# Altium integrated library Xilinx Virtex-4.IntLib: 84 symbols (part 47 of 50)
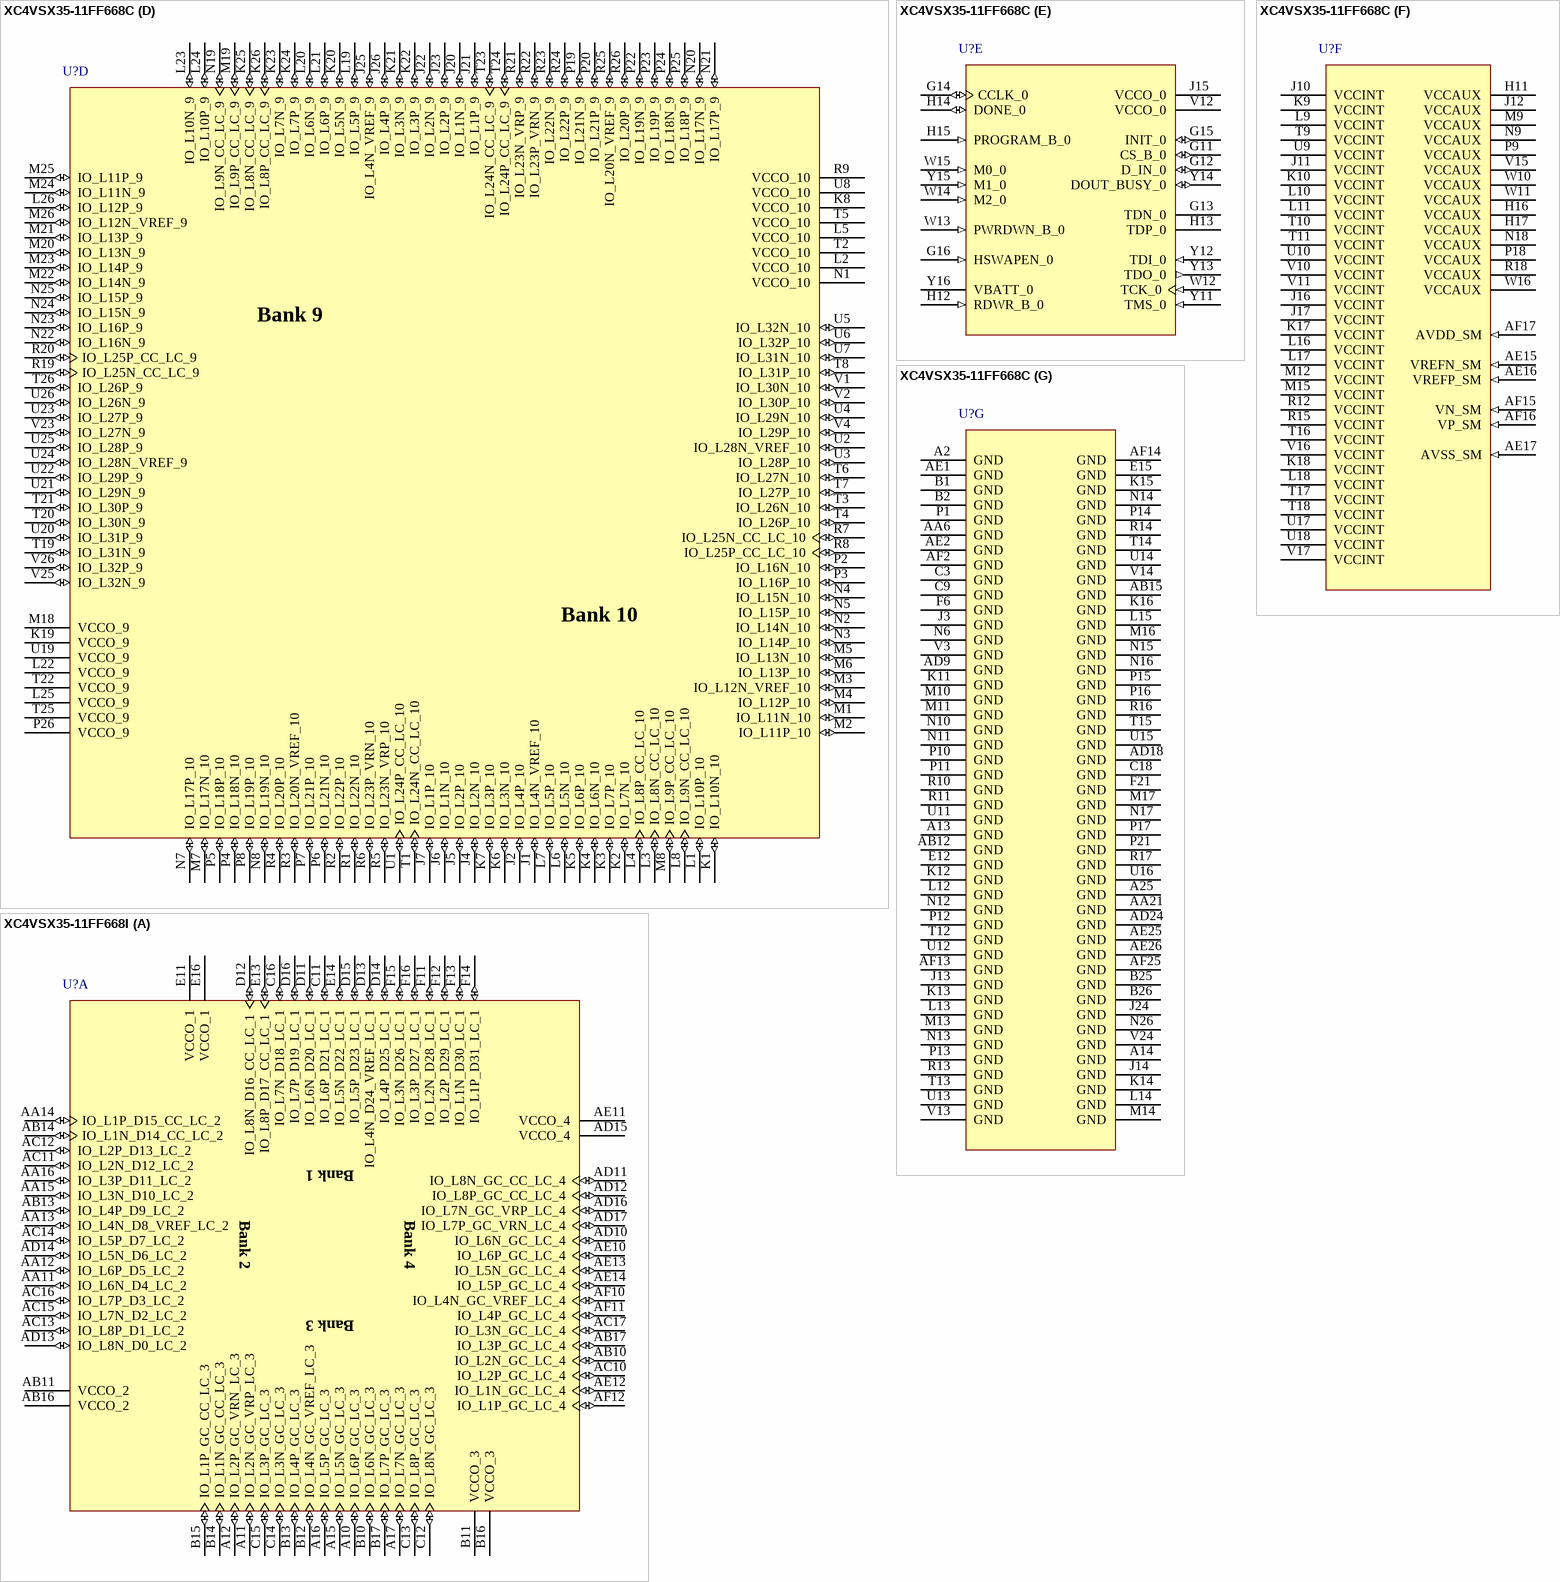
[diagram p445: symbols XC4VSX35-11FF668C to XC4VSX35-11FF668I]

## XC4VSX35-11FF668C
designator U?
Xilinx Virtex-4 SX Platform FPGA, 668-Ball FFBGA, Speed Grade 11, 448 User I/Os, Commercial Grade; PackageDocument: ver1.0, Sep-2004; Published: 13-Dec-2004; DatasheetDocument: ver1.2, Dec-2004; PackageReference: FF668; Publisher: Altium Limited; Code_JEDEC: MS-034-AAL-1 (Depopulated)
footprint FF668 (668-Ball Flip-Chip Fine-Pitch Ball Grid Array (FF668))
3D model XC4VSX35-FF668 (668-Ball Flip-Chip Fine-Pitch Ball Grid Array (FF668))
signal-integrity model XC4VSX35_FF668 (Virtex-4)
part A pins: A10 IO_L6P_GC_LC_3 (io), A11 IO_L2N_GC_VRP_LC_3 (io), A12 IO_L2P_GC_VRN_LC_3 (io), A15 IO_L5N_GC_LC_3 (io), A16 IO_L5P_GC_LC_3 (io), A17 IO_L7N_GC_LC_3 (io), AA11 IO_L6N_D4_LC_2 (io), AA12 IO_L6P_D5_LC_2 (io), AA13 IO_L4N_D8_VREF_LC_2 (io), AA14 IO_L1P_D15_CC_LC_2 (io), AA15 IO_L3N_D10_LC_2 (io), AA16 IO_L3P_D11_LC_2 (io), AB10 IO_L2N_GC_LC_4 (io), AB11 VCCO_2 (power), AB13 IO_L4P_D9_LC_2 (io), AB14 IO_L1N_D14_CC_LC_2 (io), AB16 VCCO_2 (power), AB17 IO_L3P_GC_LC_4 (io), AC10 IO_L2P_GC_LC_4 (io), AC11 IO_L2N_D12_LC_2 (io), AC12 IO_L2P_D13_LC_2 (io), AC13 IO_L8P_D1_LC_2 (io), AC14 IO_L5P_D7_LC_2 (io), AC15 IO_L7N_D2_LC_2 (io), AC16 IO_L7P_D3_LC_2 (io), AC17 IO_L3N_GC_LC_4 (io), AD10 IO_L6N_GC_LC_4 (io), AD11 IO_L8N_GC_CC_LC_4 (io), AD12 IO_L8P_GC_CC_LC_4 (io), AD13 IO_L8N_D0_LC_2 (io), AD14 IO_L5N_D6_LC_2 (io), AD15 VCCO_4 (power), AD16 IO_L7N_GC_VRP_LC_4 (io), AD17 IO_L7P_GC_VRN_LC_4 (io), AE10 IO_L6P_GC_LC_4 (io), AE11 VCCO_4 (power), AE12 IO_L1N_GC_LC_4 (io), AE13 IO_L5N_GC_LC_4 (io), AE14 IO_L5P_GC_LC_4 (io), AF10 IO_L4N_GC_VREF_LC_4 (io), AF11 IO_L4P_GC_LC_4 (io), AF12 IO_L1P_GC_LC_4 (io), B10 IO_L6N_GC_LC_3 (io), B11 VCCO_3 (power), B12 IO_L4N_GC_VREF_LC_3 (io), B13 IO_L4P_GC_LC_3 (io), B14 IO_L1N_GC_CC_LC_3 (io), B15 IO_L1P_GC_CC_LC_3 (io), B16 VCCO_3 (power), B17 IO_L7P_GC_LC_3 (io), C11 IO_L6P_D21_LC_1 (io), C12 IO_L8N_GC_LC_3 (io), C13 IO_L8P_GC_LC_3 (io), C14 IO_L3N_GC_LC_3 (io), C15 IO_L3P_GC_LC_3 (io), C16 IO_L7N_D18_LC_1 (io), D11 IO_L6N_D20_LC_1 (io), D12 IO_L8N_D16_CC_LC_1 (io), D13 IO_L4N_D24_VREF_LC_1 (io), D14 IO_L4P_D25_LC_1 (io), D15 IO_L5P_D23_LC_1 (io), D16 IO_L7P_D19_LC_1 (io), E11 VCCO_1 (power), E13 IO_L8P_D17_CC_LC_1 (io), E14 IO_L5N_D22_LC_1 (io), E16 VCCO_1 (power), F11 IO_L2N_D28_LC_1 (io), F12 IO_L2P_D29_LC_1 (io), F13 IO_L1N_D30_LC_1 (io), F14 IO_L1P_D31_LC_1 (io), F15 IO_L3N_D26_LC_1 (io), F16 IO_L3P_D27_LC_1 (io)
part B pins: A3 IO_L14P_6 (io), A4 IO_L15P_6 (io), A5 IO_L6N_6 (io), A6 IO_L6P_6 (io), A7 IO_L3N_6 (io), A8 IO_L3P_6 (io), A9 IO_L13P_6 (io), A18 IO_L3N_5 (io), A19 IO_L13N_5 (io), A20 IO_L13P_5 (io), A21 IO_L15N_5 (io), A22 IO_L15P_5 (io), A23 IO_L8N_CC_LC_5 (io), A24 IO_L8P_CC_LC_5 (io), B3 IO_L14N_6 (io), B4 IO_L15N_6 (io), B5 VCCO_6 (power), B6 IO_L8P_CC_LC_6 (io), B7 IO_L11P_6 (io), B8 VCCO_6 (power), B9 IO_L13N_6 (io), B18 IO_L3P_5 (io), B19 VCCO_5 (power), B20 IO_L2N_5 (io), B21 IO_L6N_5 (io), B22 VCCO_5 (power), B23 IO_L10N_5 (io), B24 IO_L10P_5 (io), C1 IO_L20N_VREF_6 (io), C2 IO_L20P_6 (io), C4 IO_L16P_6 (io), C5 IO_L12P_6 (io), C6 IO_L8N_CC_LC_6 (io), C7 IO_L11N_6 (io), C8 IO_L2N_6 (io), C10 IO_L1N_6 (io), C17 IO_L1P_5 (io), C19 IO_L7P_5 (io), C20 IO_L2P_5 (io), C21 IO_L6P_5 (io), C22 IO_L14N_5 (io), C23 IO_L21N_5 (io), C24 IO_L16N_5 (io), C25 IO_L20N_VREF_5 (io), C26 IO_L20P_5 (io), D1 IO_L25N_CC_LC_6 (io), D2 IO_L25P_CC_LC_6 (io), D3 IO_L22P_6 (io), D4 IO_L16N_6 (io), D5 IO_L12N_VREF_6 (io), D6 IO_L17N_6 (io), D7 IO_L4N_VREF_6 (io), D8 IO_L4P_6 (io), D9 IO_L2P_6 (io), D10 IO_L1P_6 (io), D17 IO_L1N_5 (io), D18 IO_L7N_5 (io), D19 IO_L4N_VREF_5 (io), D20 IO_L4P_5 (io), D21 IO_L12N_VREF_5 (io), D22 IO_L14P_5 (io), D23 IO_L21P_5 (io), D24 IO_L16P_5 (io), D25 IO_L25N_CC_LC_5 (io), D26 IO_L25P_CC_LC_5 (io), E1 IO_L26P_6 (io), E2 IO_L24N_CC_LC_6 (io), E3 IO_L24P_CC_LC_6 (io), E4 IO_L22N_6 (io), E5 IO_L18N_6 (io), E6 IO_L18P_6 (io), E7 IO_L17P_6 (io), E8 VCCO_6 (power), E9 IO_L7P_6 (io), E10 IO_L5N_6 (io), E17 IO_L5P_5 (io), E18 IO_L11N_5 (io), E19 VCCO_5 (power), E20 IO_L19N_5 (io), E21 IO_L12P_5 (io), E22 IO_L18N_5 (io), E23 IO_L18P_5 (io), E24 IO_L27N_5 (io), E25 IO_L27P_5 (io), E26 IO_L29N_5 (io), F1 IO_L26N_6 (io), F2 VCCO_6 (power), F3 IO_L27N_6 (io), F4 IO_L27P_6 (io), F5 VCCO_6 (power), F7 IO_L19P_6 (io), F8 IO_L10P_6 (io), F9 IO_L7N_6 (io), F10 IO_L5P_6 (io), F17 IO_L5N_5 (io), F18 IO_L11P_5 (io), F19 IO_L17N_5 (io), F20 IO_L19P_5 (io), F22 VCCO_5 (power), F23 IO_L24N_CC_LC_5 (io), F24 IO_L24P_CC_LC_5 (io), F25 VCCO_5 (power), F26 IO_L29P_5 (io), G1 IO_L30N_6 (io), G2 IO_L30P_6 (io), G3 IO_L28N_VREF_6 (io), G4 IO_L28P_6 (io), G5 IO_L23N_VRP_6 (io), G6 IO_L23P_VRN_6 (io), G7 IO_L19N_6 (io), G8 IO_L10N_6 (io), G9 IO_L9N_CC_LC_6 (io), G10 IO_L9P_CC_LC_6 (io), G17 IO_L9N_CC_LC_5 (io), G18 IO_L9P_CC_LC_5 (io), G19 IO_L17P_5 (io), G20 IO_L22N_5 (io), G21 IO_L23N_VRP_5 (io), G22 IO_L23P_VRN_5 (io), G23 IO_L28N_VREF_5 (io), G24 IO_L28P_5 (io), G25 IO_L31N_5 (io), G26 IO_L31P_5 (io), H1 IO_L32N_6 (io), H2 IO_L32P_6 (io), H3 IO_L31N_6 (io), H4 IO_L31P_6 (io), H5 IO_L29N_6 (io), H6 IO_L29P_6 (io), H7 IO_L21N_6 (io), H8 IO_L21P_6 (io), H9 VCCO_6 (power), H10 VCCO_6 (power), H18 VCCO_5 (power), H19 VCCO_5 (power), H20 IO_L22P_5 (io), H21 IO_L26N_5 (io), H22 IO_L26P_5 (io), H23 IO_L30N_5 (io), H24 IO_L30P_5 (io), H25 IO_L32N_5 (io), H26 IO_L32P_5 (io), J8 VCCO_6 (power), J19 VCCO_5 (power)
part C pins: AA1 IO_L10N_8 (io), AA2 VCCO_8 (power), AA3 IO_L7N_8 (io), AA4 IO_L7P_8 (io), AA5 VCCO_8 (power), AA7 IO_L20P_8 (io), AA8 IO_L26P_8 (io), AA9 IO_L21P_8 (io), AA10 IO_L27N_8 (io), AA17 IO_L27N_SM5_7 (io), AA18 IO_L21P_7 (io), AA19 IO_L26P_SM6_7 (io), AA20 IO_L26N_SM6_7 (io), AA22 VCCO_7 (power), AA23 IO_L14N_7 (io), AA24 IO_L8P_CC_LC_7 (io), AA25 VCCO_7 (power), AA26 IO_L10N_7 (io), AB1 IO_L10P_8 (io), AB2 IO_L12N_VREF_8 (io), AB3 IO_L12P_8 (io), AB4 IO_L11N_8 (io), AB5 IO_L13N_8 (io), AB6 IO_L24N_CC_LC_8 (io), AB7 IO_L28N_VREF_8 (io), AB8 VCCO_8 (power), AB9 IO_L29N_8 (io), AB18 IO_L29N_SM4_7 (io), AB19 VCCO_7 (power), AB20 IO_L28P_7 (io), AB21 IO_L24N_CC_LC_7 (io), AB22 IO_L13N_7 (io), AB23 IO_L14P_7 (io), AB24 IO_L7P_7 (io), AB25 IO_L7N_7 (io), AB26 IO_L10P_7 (io), AC1 IO_L14N_8 (io), AC2 IO_L14P_8 (io), AC3 IO_L18N_8 (io), AC4 IO_L11P_8 (io), AC5 IO_L13P_8 (io), AC6 IO_L24P_CC_LC_8 (io), AC7 IO_L28P_8 (io), AC8 IO_L32N_8 (io), AC9 IO_L29P_8 (io), AC18 IO_L29P_SM4_7 (io), AC19 IO_L25N_CC_SM7_LC_7 (io), AC20 IO_L28N_VREF_7 (io), AC21 IO_L24P_CC_LC_7 (io), AC22 IO_L13P_7 (io), AC23 IO_L16P_7 (io), AC24 IO_L16N_7 (io), AC25 IO_L9P_CC_LC_7 (io), AC26 IO_L9N_CC_LC_7 (io), AD1 IO_L16N_8 (io), AD2 IO_L16P_8 (io), AD3 IO_L18P_8 (io), AD4 IO_L22N_8 (io), AD5 IO_L22P_8 (io), AD6 IO_L30N_8 (io), AD7 IO_L23N_VRP_8 (io), AD8 IO_L32P_8 (io), AD19 IO_L25P_CC_SM7_LC_7 (io), AD20 IO_L23N_VRP_7 (io), AD21 IO_L32N_SM1_7 (io), AD22 IO_L15P_7 (io), AD23 IO_L15N_7 (io), AD25 IO_L11P_7 (io), AD26 IO_L11N_7 (io), AE3 IO_L15N_8 (io), AE4 IO_L17N_8 (io), AE5 VCCO_8 (power), AE6 IO_L30P_8 (io), AE7 IO_L23P_VRN_8 (io), AE8 VCCO_8 (power), AE9 IO_L31N_8 (io), AE18 IO_L31N_SM2_7 (io), AE19 VCCO_7 (power), AE20 IO_L23P_VRN_7 (io), AE21 IO_L32P_SM1_7 (io), AE22 VCCO_7 (power), AE23 IO_L19N_7 (io), AE24 IO_L22N_7 (io), AF3 IO_L15P_8 (io), AF4 IO_L17P_8 (io), AF5 IO_L19N_8 (io), AF6 IO_L19P_8 (io), AF7 IO_L25N_CC_LC_8 (io), AF8 IO_L25P_CC_LC_8 (io), AF9 IO_L31P_8 (io), AF18 IO_L31P_SM2_7 (io), AF19 IO_L17P_7 (io), AF20 IO_L17N_7 (io), AF21 IO_L30P_SM3_7 (io), AF22 IO_L30N_SM3_7 (io), AF23 IO_L19P_7 (io), AF24 IO_L22P_7 (io), V5 IO_L2N_8 (io), V6 IO_L2P_8 (io), V7 IO_L3N_8 (io), V8 VCCO_8 (power), V19 VCCO_7 (power), V20 IO_L5N_7 (io), V21 IO_L1P_7 (io), V22 IO_L1N_7 (io), W1 IO_L1N_8 (io), W2 IO_L1P_8 (io), W3 IO_L4N_VREF_8 (io), W4 IO_L4P_8 (io), W5 IO_L5N_8 (io), W6 IO_L5P_8 (io), W7 IO_L3P_8 (io), W8 VCCO_8 (power), W9 VCCO_8 (power), W17 VCCO_7 (power), W18 VCCO_7 (power), W19 IO_L18N_7 (io), W20 IO_L5P_7 (io), W21 IO_L3P_7 (io), W22 IO_L3N_7 (io), W23 IO_L4P_7 (io), W24 IO_L4N_VREF_7 (io), W25 IO_L2P_7 (io), W26 IO_L2N_7 (io), Y1 IO_L6N_8 (io), Y2 IO_L6P_8 (io), Y3 IO_L8N_CC_LC_8 (io), Y4 IO_L8P_CC_LC_8 (io), Y5 IO_L9N_CC_LC_8 (io), Y6 IO_L9P_CC_LC_8 (io), Y7 IO_L20N_VREF_8 (io), Y8 IO_L26N_8 (io), Y9 IO_L21N_8 (io), Y10 IO_L27P_8 (io), Y17 IO_L27P_SM5_7 (io), Y18 IO_L21N_7 (io), Y19 IO_L18P_7 (io), Y20 IO_L20P_7 (io), Y21 IO_L20N_VREF_7 (io), Y22 IO_L12P_7 (io), Y23 IO_L12N_VREF_7 (io), Y24 IO_L8N_CC_LC_7 (io), Y25 IO_L6P_7 (io), Y26 IO_L6N_7 (io)
part D pins: J1 IO_L4N_VREF_10 (io), J2 IO_L4P_10 (io), J4 IO_L2N_10 (io), J5 IO_L2P_10 (io), J6 IO_L1N_10 (io), J7 IO_L1P_10 (io), J20 IO_L1N_9 (io), J21 IO_L1P_9 (io), J22 IO_L2N_9 (io), J23 IO_L2P_9 (io), J25 IO_L4N_VREF_9 (io), J26 IO_L4P_9 (io), K1 IO_L10N_10 (io), K2 IO_L7N_10 (io), K3 IO_L7P_10 (io), K4 IO_L6N_10 (io), K5 IO_L6P_10 (io), K6 IO_L3N_10 (io), K7 IO_L3P_10 (io), K8 VCCO_10 (power), K19 VCCO_9 (power), K20 IO_L5N_9 (io), K21 IO_L3N_9 (io), K22 IO_L3P_9 (io), K23 IO_L7N_9 (io), K24 IO_L7P_9 (io), K25 IO_L8N_CC_LC_9 (io), K26 IO_L8P_CC_LC_9 (io), L1 IO_L10P_10 (io), L2 VCCO_10 (power), L3 IO_L8N_CC_LC_10 (io), L4 IO_L8P_CC_LC_10 (io), L5 VCCO_10 (power), L6 IO_L5N_10 (io), L7 IO_L5P_10 (io), L8 IO_L9N_CC_LC_10 (io), L19 IO_L5P_9 (io), L20 IO_L6N_9 (io), L21 IO_L6P_9 (io), L22 VCCO_9 (power), L23 IO_L10N_9 (io), L24 IO_L10P_9 (io), L25 VCCO_9 (power), L26 IO_L12P_9 (io), M1 IO_L11N_10 (io), M2 IO_L11P_10 (io), M3 IO_L12N_VREF_10 (io), M4 IO_L12P_10 (io), M5 IO_L13N_10 (io), M6 IO_L13P_10 (io), M7 IO_L17N_10 (io), M8 IO_L9P_CC_LC_10 (io), M18 VCCO_9 (power), M19 IO_L9P_CC_LC_9 (io), M20 IO_L13N_9 (io), M21 IO_L13P_9 (io), M22 IO_L14N_9 (io), M23 IO_L14P_9 (io), M24 IO_L11N_9 (io), M25 IO_L11P_9 (io), M26 IO_L12N_VREF_9 (io), N1 VCCO_10 (power), N2 IO_L14N_10 (io), N3 IO_L14P_10 (io), N4 IO_L15N_10 (io), N5 IO_L15P_10 (io), N7 IO_L17P_10 (io), N8 IO_L19N_10 (io), N19 IO_L9N_CC_LC_9 (io), N20 IO_L17N_9 (io), N21 IO_L17P_9 (io), N22 IO_L16N_9 (io), N23 IO_L16P_9 (io), N24 IO_L15N_9 (io), N25 IO_L15P_9 (io), P2 IO_L16N_10 (io), P3 IO_L16P_10 (io), P4 IO_L18N_10 (io), P5 IO_L18P_10 (io), P6 IO_L21N_10 (io), P7 IO_L21P_10 (io), P8 IO_L19P_10 (io), P19 IO_L21N_9 (io), P20 IO_L21P_9 (io), P22 IO_L19N_9 (io), P23 IO_L19P_9 (io), P24 IO_L18N_9 (io), P25 IO_L18P_9 (io), P26 VCCO_9 (power), R1 IO_L22N_10 (io), R2 IO_L22P_10 (io), R3 IO_L20N_VREF_10 (io), R4 IO_L20P_10 (io), R5 IO_L23N_VRP_10 (io), R6 IO_L23P_VRN_10 (io), R7 IO_L25N_CC_LC_10 (io), R8 IO_L25P_CC_LC_10 (io), R9 VCCO_10 (power), R19 IO_L25N_CC_LC_9 (io), R20 IO_L25P_CC_LC_9 (io), R21 IO_L23N_VRP_9 (io), R22 IO_L23P_VRN_9 (io), R23 IO_L22N_9 (io), R24 IO_L22P_9 (io), R25 IO_L20N_VREF_9 (io), R26 IO_L20P_9 (io), T1 IO_L24N_CC_LC_10 (io), T2 VCCO_10 (power), T3 IO_L26N_10 (io), T4 IO_L26P_10 (io), T5 VCCO_10 (power), T6 IO_L27N_10 (io), T7 IO_L27P_10 (io), T8 IO_L31P_10 (io), T19 IO_L31N_9 (io), T20 IO_L30N_9 (io), T21 IO_L30P_9 (io), T22 VCCO_9 (power), T23 IO_L24N_CC_LC_9 (io), T24 IO_L24P_CC_LC_9 (io), T25 VCCO_9 (power), T26 IO_L26P_9 (io), U1 IO_L24P_CC_LC_10 (io), U2 IO_L28N_VREF_10 (io), U3 IO_L28P_10 (io), U4 IO_L29N_10 (io), U5 IO_L32N_10 (io), U6 IO_L32P_10 (io), U7 IO_L31N_10 (io), U8 VCCO_10 (power), U19 VCCO_9 (power), U20 IO_L31P_9 (io), U21 IO_L29N_9 (io), U22 IO_L29P_9 (io), U23 IO_L27P_9 (io), U24 IO_L28N_VREF_9 (io), U25 IO_L28P_9 (io), U26 IO_L26N_9 (io), V1 IO_L30N_10 (io), V2 IO_L30P_10 (io), V4 IO_L29P_10 (io), V23 IO_L27N_9 (io), V25 IO_L32N_9 (io), V26 IO_L32P_9 (io)
part E pins: G11 CS_B_0 (io), G12 D_IN_0 (io), G13 TDN_0, G14 CCLK_0 (io), G15 INIT_0 (io), G16 HSWAPEN_0 (in), H12 RDWR_B_0 (in), H13 TDP_0, H14 DONE_0 (io), H15 PROGRAM_B_0 (in), J15 VCCO_0 (power), V12 VCCO_0 (power), W12 TCK_0 (in), W13 PWRDWN_B_0 (in), W14 M2_0 (in), W15 M0_0 (in), Y11 TMS_0 (in), Y12 TDI_0 (in), Y13 TDO_0 (out), Y14 DOUT_BUSY_0 (io), Y15 M1_0 (in), Y16 VBATT_0 (power)
part F pins: AE15 VREFN_SM (in), AE16 VREFP_SM (in), AE17 AVSS_SM (in), AF15 VN_SM (in), AF16 VP_SM (in), AF17 AVDD_SM (in), H11 VCCAUX (power), H16 VCCAUX (power), H17 VCCAUX (power), J10 VCCINT (power), J11 VCCINT (power), J12 VCCAUX (power), J16 VCCINT (power), J17 VCCINT (power), K9 VCCINT (power), K10 VCCINT (power), K17 VCCINT (power), K18 VCCINT (power), L9 VCCINT (power), L10 VCCINT (power), L11 VCCINT (power), L16 VCCINT (power), L17 VCCINT (power), L18 VCCINT (power), M9 VCCAUX (power), M12 VCCINT (power), M15 VCCINT (power), N9 VCCAUX (power), N18 VCCAUX (power), P9 VCCAUX (power), P18 VCCAUX (power), R12 VCCINT (power), R15 VCCINT (power), R18 VCCAUX (power), T9 VCCINT (power), T10 VCCINT (power), T11 VCCINT (power), T16 VCCINT (power), T17 VCCINT (power), T18 VCCINT (power), U9 VCCINT (power), U10 VCCINT (power), U17 VCCINT (power), U18 VCCINT (power), V10 VCCINT (power), V11 VCCINT (power), V15 VCCAUX (power), V16 VCCINT (power), V17 VCCINT (power), W10 VCCAUX (power), W11 VCCAUX (power), W16 VCCAUX (power)
part G pins: A2 GND (power), A13 GND (power), A14 GND (power), A25 GND (power), AA6 GND (power), AA21 GND (power), AB12 GND (power), AB15 GND (power), AD9 GND (power), AD18 GND (power), AD24 GND (power), AE1 GND (power), AE2 GND (power), AE25 GND (power), AE26 GND (power), AF2 GND (power), AF13 GND (power), AF14 GND (power), AF25 GND (power), B1 GND (power), B2 GND (power), B25 GND (power), B26 GND (power), C3 GND (power), C9 GND (power), C18 GND (power), E12 GND (power), E15 GND (power), F6 GND (power), F21 GND (power), J3 GND (power), J13 GND (power), J14 GND (power), J24 GND (power), K11 GND (power), K12 GND (power), K13 GND (power), K14 GND (power), K15 GND (power), K16 GND (power), L12 GND (power), L13 GND (power), L14 GND (power), L15 GND (power), M10 GND (power), M11 GND (power), M13 GND (power), M14 GND (power), M16 GND (power), M17 GND (power), N6 GND (power), N10 GND (power), N11 GND (power), N12 GND (power), N13 GND (power), N14 GND (power), N15 GND (power), N16 GND (power), N17 GND (power), N26 GND (power), P1 GND (power), P10 GND (power), P11 GND (power), P12 GND (power), P13 GND (power), P14 GND (power), P15 GND (power), P16 GND (power), P17 GND (power), P21 GND (power), R10 GND (power), R11 GND (power), R13 GND (power), R14 GND (power), R16 GND (power), R17 GND (power), T12 GND (power), T13 GND (power), T14 GND (power), T15 GND (power), U11 GND (power), U12 GND (power), U13 GND (power), U14 GND (power), U15 GND (power), U16 GND (power), V3 GND (power), V13 GND (power), V14 GND (power), V24 GND (power)
part A text: Bank 1; Bank 2; Bank 4; Bank 3
part B text: Bank 5; Bank 6
part C text: Bank 7; Bank 8
part D text: Bank 9; Bank 10

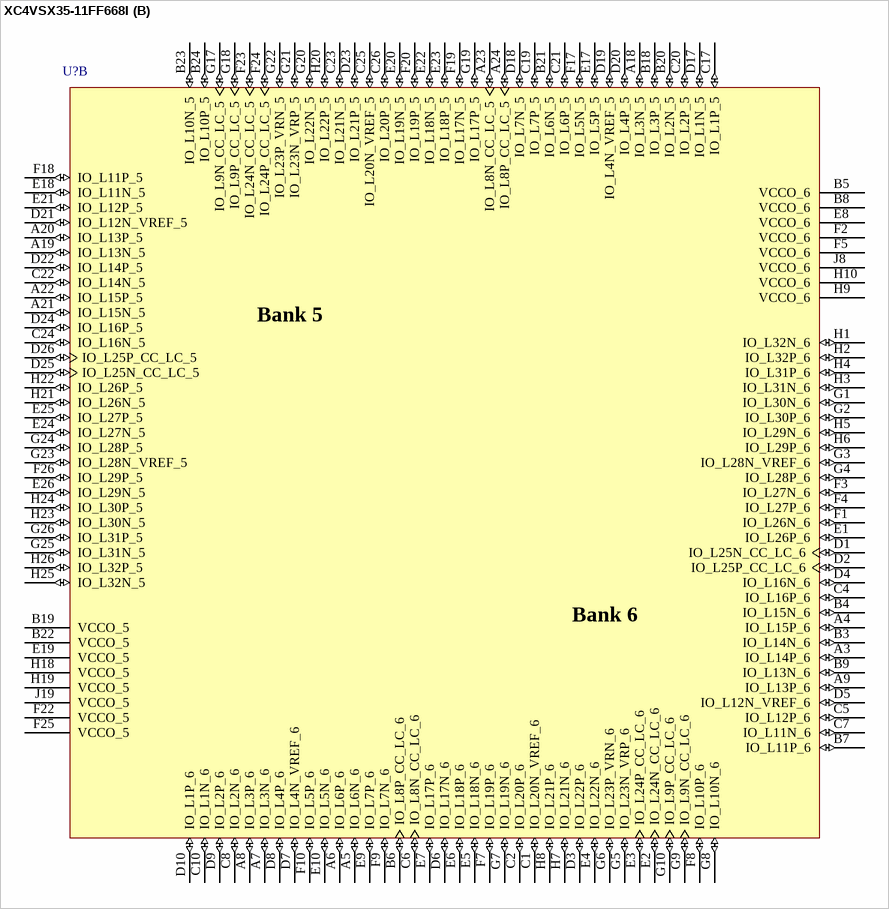
[diagram p381: symbol XC4VSX35-11FF668I]

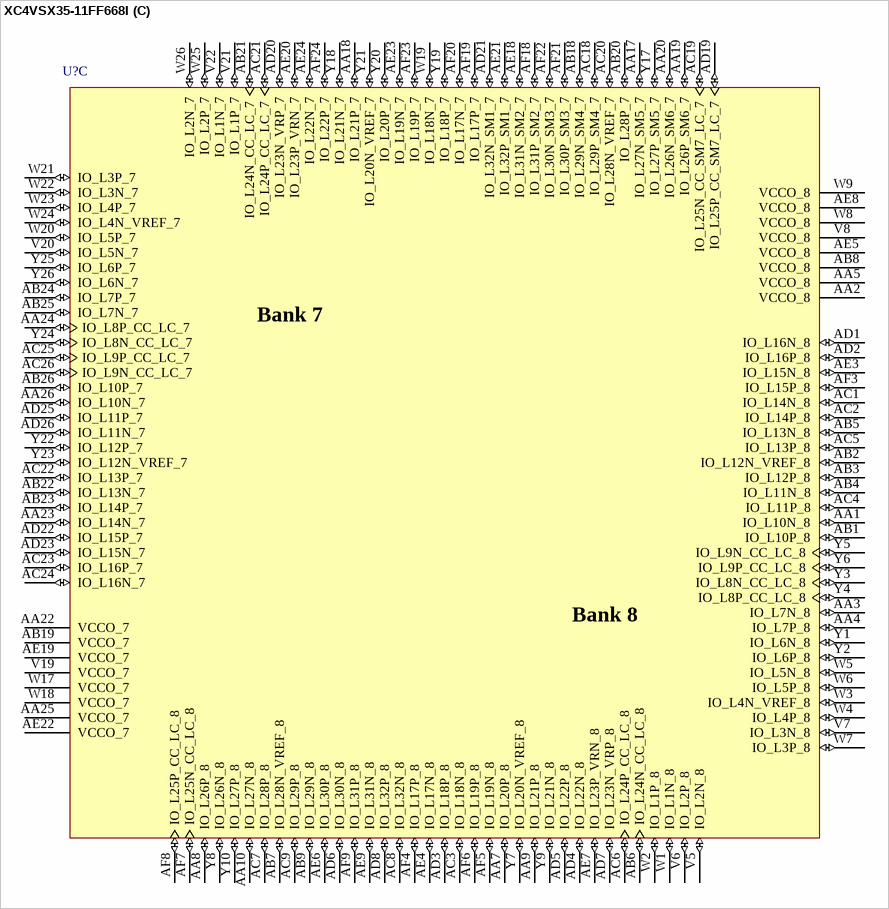
[diagram p382: symbol XC4VSX35-11FF668I]

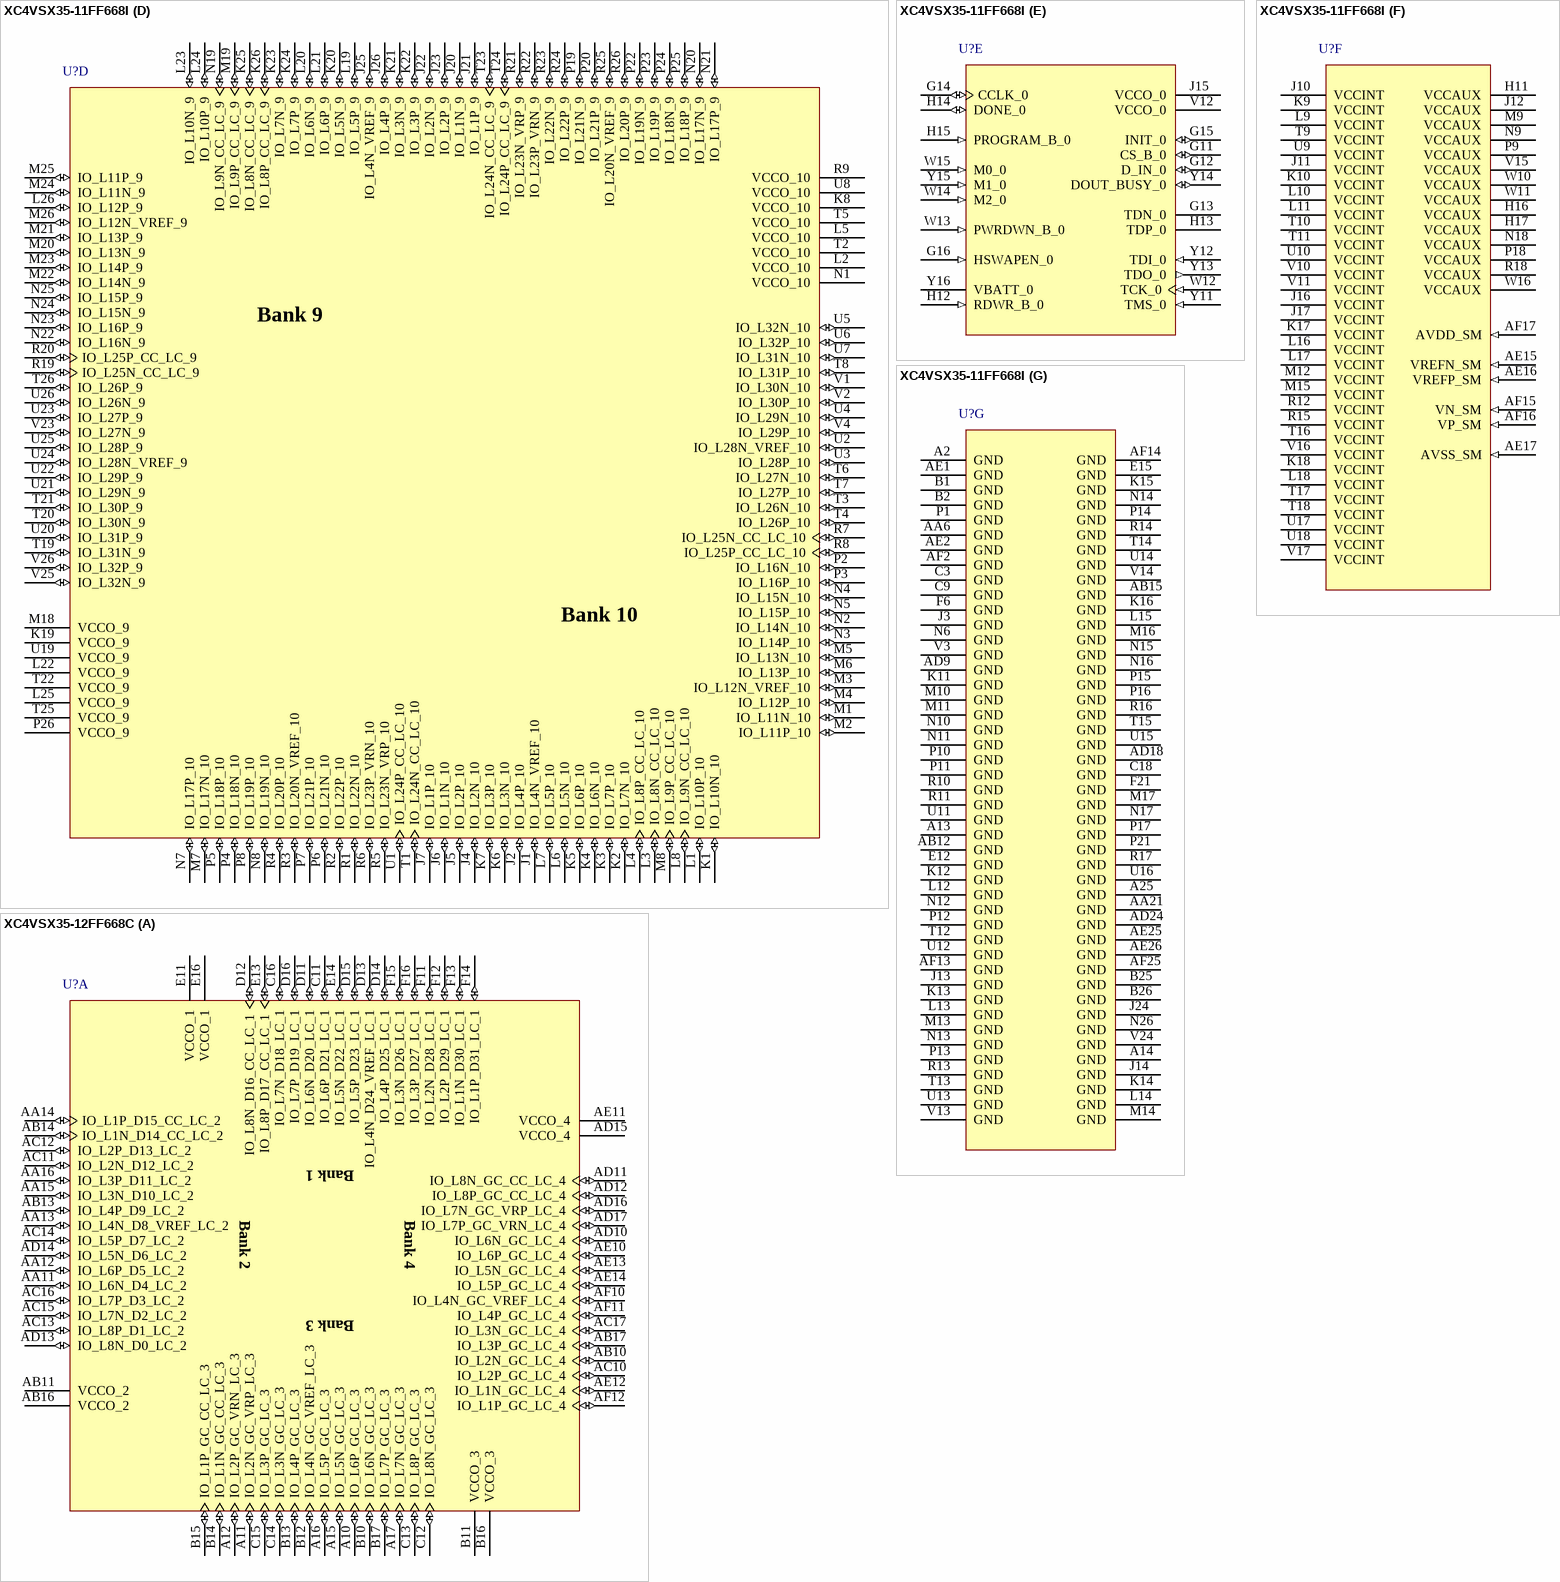
[diagram p383: symbols XC4VSX35-11FF668I to XC4VSX35-12FF668C]

## XC4VSX35-11FF668I
designator U?
Xilinx Virtex-4 SX Platform FPGA, 668-Ball FFBGA, Speed Grade 11, 448 User I/Os, Industrial Grade; PackageDocument: ver1.0, Sep-2004; Published: 13-Dec-2004; DatasheetDocument: ver1.2, Dec-2004; PackageReference: FF668; Publisher: Altium Limited; Code_JEDEC: MS-034-AAL-1 (Depopulated)
footprint FF668 (668-Ball Flip-Chip Fine-Pitch Ball Grid Array (FF668))
3D model XC4VSX35-FF668 (668-Ball Flip-Chip Fine-Pitch Ball Grid Array (FF668))
signal-integrity model XC4VSX35_FF668 (Virtex-4)
part A pins: A10 IO_L6P_GC_LC_3 (io), A11 IO_L2N_GC_VRP_LC_3 (io), A12 IO_L2P_GC_VRN_LC_3 (io), A15 IO_L5N_GC_LC_3 (io), A16 IO_L5P_GC_LC_3 (io), A17 IO_L7N_GC_LC_3 (io), AA11 IO_L6N_D4_LC_2 (io), AA12 IO_L6P_D5_LC_2 (io), AA13 IO_L4N_D8_VREF_LC_2 (io), AA14 IO_L1P_D15_CC_LC_2 (io), AA15 IO_L3N_D10_LC_2 (io), AA16 IO_L3P_D11_LC_2 (io), AB10 IO_L2N_GC_LC_4 (io), AB11 VCCO_2 (power), AB13 IO_L4P_D9_LC_2 (io), AB14 IO_L1N_D14_CC_LC_2 (io), AB16 VCCO_2 (power), AB17 IO_L3P_GC_LC_4 (io), AC10 IO_L2P_GC_LC_4 (io), AC11 IO_L2N_D12_LC_2 (io), AC12 IO_L2P_D13_LC_2 (io), AC13 IO_L8P_D1_LC_2 (io), AC14 IO_L5P_D7_LC_2 (io), AC15 IO_L7N_D2_LC_2 (io), AC16 IO_L7P_D3_LC_2 (io), AC17 IO_L3N_GC_LC_4 (io), AD10 IO_L6N_GC_LC_4 (io), AD11 IO_L8N_GC_CC_LC_4 (io), AD12 IO_L8P_GC_CC_LC_4 (io), AD13 IO_L8N_D0_LC_2 (io), AD14 IO_L5N_D6_LC_2 (io), AD15 VCCO_4 (power), AD16 IO_L7N_GC_VRP_LC_4 (io), AD17 IO_L7P_GC_VRN_LC_4 (io), AE10 IO_L6P_GC_LC_4 (io), AE11 VCCO_4 (power), AE12 IO_L1N_GC_LC_4 (io), AE13 IO_L5N_GC_LC_4 (io), AE14 IO_L5P_GC_LC_4 (io), AF10 IO_L4N_GC_VREF_LC_4 (io), AF11 IO_L4P_GC_LC_4 (io), AF12 IO_L1P_GC_LC_4 (io), B10 IO_L6N_GC_LC_3 (io), B11 VCCO_3 (power), B12 IO_L4N_GC_VREF_LC_3 (io), B13 IO_L4P_GC_LC_3 (io), B14 IO_L1N_GC_CC_LC_3 (io), B15 IO_L1P_GC_CC_LC_3 (io), B16 VCCO_3 (power), B17 IO_L7P_GC_LC_3 (io), C11 IO_L6P_D21_LC_1 (io), C12 IO_L8N_GC_LC_3 (io), C13 IO_L8P_GC_LC_3 (io), C14 IO_L3N_GC_LC_3 (io), C15 IO_L3P_GC_LC_3 (io), C16 IO_L7N_D18_LC_1 (io), D11 IO_L6N_D20_LC_1 (io), D12 IO_L8N_D16_CC_LC_1 (io), D13 IO_L4N_D24_VREF_LC_1 (io), D14 IO_L4P_D25_LC_1 (io), D15 IO_L5P_D23_LC_1 (io), D16 IO_L7P_D19_LC_1 (io), E11 VCCO_1 (power), E13 IO_L8P_D17_CC_LC_1 (io), E14 IO_L5N_D22_LC_1 (io), E16 VCCO_1 (power), F11 IO_L2N_D28_LC_1 (io), F12 IO_L2P_D29_LC_1 (io), F13 IO_L1N_D30_LC_1 (io), F14 IO_L1P_D31_LC_1 (io), F15 IO_L3N_D26_LC_1 (io), F16 IO_L3P_D27_LC_1 (io)
part B pins: A3 IO_L14P_6 (io), A4 IO_L15P_6 (io), A5 IO_L6N_6 (io), A6 IO_L6P_6 (io), A7 IO_L3N_6 (io), A8 IO_L3P_6 (io), A9 IO_L13P_6 (io), A18 IO_L3N_5 (io), A19 IO_L13N_5 (io), A20 IO_L13P_5 (io), A21 IO_L15N_5 (io), A22 IO_L15P_5 (io), A23 IO_L8N_CC_LC_5 (io), A24 IO_L8P_CC_LC_5 (io), B3 IO_L14N_6 (io), B4 IO_L15N_6 (io), B5 VCCO_6 (power), B6 IO_L8P_CC_LC_6 (io), B7 IO_L11P_6 (io), B8 VCCO_6 (power), B9 IO_L13N_6 (io), B18 IO_L3P_5 (io), B19 VCCO_5 (power), B20 IO_L2N_5 (io), B21 IO_L6N_5 (io), B22 VCCO_5 (power), B23 IO_L10N_5 (io), B24 IO_L10P_5 (io), C1 IO_L20N_VREF_6 (io), C2 IO_L20P_6 (io), C4 IO_L16P_6 (io), C5 IO_L12P_6 (io), C6 IO_L8N_CC_LC_6 (io), C7 IO_L11N_6 (io), C8 IO_L2N_6 (io), C10 IO_L1N_6 (io), C17 IO_L1P_5 (io), C19 IO_L7P_5 (io), C20 IO_L2P_5 (io), C21 IO_L6P_5 (io), C22 IO_L14N_5 (io), C23 IO_L21N_5 (io), C24 IO_L16N_5 (io), C25 IO_L20N_VREF_5 (io), C26 IO_L20P_5 (io), D1 IO_L25N_CC_LC_6 (io), D2 IO_L25P_CC_LC_6 (io), D3 IO_L22P_6 (io), D4 IO_L16N_6 (io), D5 IO_L12N_VREF_6 (io), D6 IO_L17N_6 (io), D7 IO_L4N_VREF_6 (io), D8 IO_L4P_6 (io), D9 IO_L2P_6 (io), D10 IO_L1P_6 (io), D17 IO_L1N_5 (io), D18 IO_L7N_5 (io), D19 IO_L4N_VREF_5 (io), D20 IO_L4P_5 (io), D21 IO_L12N_VREF_5 (io), D22 IO_L14P_5 (io), D23 IO_L21P_5 (io), D24 IO_L16P_5 (io), D25 IO_L25N_CC_LC_5 (io), D26 IO_L25P_CC_LC_5 (io), E1 IO_L26P_6 (io), E2 IO_L24N_CC_LC_6 (io), E3 IO_L24P_CC_LC_6 (io), E4 IO_L22N_6 (io), E5 IO_L18N_6 (io), E6 IO_L18P_6 (io), E7 IO_L17P_6 (io), E8 VCCO_6 (power), E9 IO_L7P_6 (io), E10 IO_L5N_6 (io), E17 IO_L5P_5 (io), E18 IO_L11N_5 (io), E19 VCCO_5 (power), E20 IO_L19N_5 (io), E21 IO_L12P_5 (io), E22 IO_L18N_5 (io), E23 IO_L18P_5 (io), E24 IO_L27N_5 (io), E25 IO_L27P_5 (io), E26 IO_L29N_5 (io), F1 IO_L26N_6 (io), F2 VCCO_6 (power), F3 IO_L27N_6 (io), F4 IO_L27P_6 (io), F5 VCCO_6 (power), F7 IO_L19P_6 (io), F8 IO_L10P_6 (io), F9 IO_L7N_6 (io), F10 IO_L5P_6 (io), F17 IO_L5N_5 (io), F18 IO_L11P_5 (io), F19 IO_L17N_5 (io), F20 IO_L19P_5 (io), F22 VCCO_5 (power), F23 IO_L24N_CC_LC_5 (io), F24 IO_L24P_CC_LC_5 (io), F25 VCCO_5 (power), F26 IO_L29P_5 (io), G1 IO_L30N_6 (io), G2 IO_L30P_6 (io), G3 IO_L28N_VREF_6 (io), G4 IO_L28P_6 (io), G5 IO_L23N_VRP_6 (io), G6 IO_L23P_VRN_6 (io), G7 IO_L19N_6 (io), G8 IO_L10N_6 (io), G9 IO_L9N_CC_LC_6 (io), G10 IO_L9P_CC_LC_6 (io), G17 IO_L9N_CC_LC_5 (io), G18 IO_L9P_CC_LC_5 (io), G19 IO_L17P_5 (io), G20 IO_L22N_5 (io), G21 IO_L23N_VRP_5 (io), G22 IO_L23P_VRN_5 (io), G23 IO_L28N_VREF_5 (io), G24 IO_L28P_5 (io), G25 IO_L31N_5 (io), G26 IO_L31P_5 (io), H1 IO_L32N_6 (io), H2 IO_L32P_6 (io), H3 IO_L31N_6 (io), H4 IO_L31P_6 (io), H5 IO_L29N_6 (io), H6 IO_L29P_6 (io), H7 IO_L21N_6 (io), H8 IO_L21P_6 (io), H9 VCCO_6 (power), H10 VCCO_6 (power), H18 VCCO_5 (power), H19 VCCO_5 (power), H20 IO_L22P_5 (io), H21 IO_L26N_5 (io), H22 IO_L26P_5 (io), H23 IO_L30N_5 (io), H24 IO_L30P_5 (io), H25 IO_L32N_5 (io), H26 IO_L32P_5 (io), J8 VCCO_6 (power), J19 VCCO_5 (power)
part C pins: AA1 IO_L10N_8 (io), AA2 VCCO_8 (power), AA3 IO_L7N_8 (io), AA4 IO_L7P_8 (io), AA5 VCCO_8 (power), AA7 IO_L20P_8 (io), AA8 IO_L26P_8 (io), AA9 IO_L21P_8 (io), AA10 IO_L27N_8 (io), AA17 IO_L27N_SM5_7 (io), AA18 IO_L21P_7 (io), AA19 IO_L26P_SM6_7 (io), AA20 IO_L26N_SM6_7 (io), AA22 VCCO_7 (power), AA23 IO_L14N_7 (io), AA24 IO_L8P_CC_LC_7 (io), AA25 VCCO_7 (power), AA26 IO_L10N_7 (io), AB1 IO_L10P_8 (io), AB2 IO_L12N_VREF_8 (io), AB3 IO_L12P_8 (io), AB4 IO_L11N_8 (io), AB5 IO_L13N_8 (io), AB6 IO_L24N_CC_LC_8 (io), AB7 IO_L28N_VREF_8 (io), AB8 VCCO_8 (power), AB9 IO_L29N_8 (io), AB18 IO_L29N_SM4_7 (io), AB19 VCCO_7 (power), AB20 IO_L28P_7 (io), AB21 IO_L24N_CC_LC_7 (io), AB22 IO_L13N_7 (io), AB23 IO_L14P_7 (io), AB24 IO_L7P_7 (io), AB25 IO_L7N_7 (io), AB26 IO_L10P_7 (io), AC1 IO_L14N_8 (io), AC2 IO_L14P_8 (io), AC3 IO_L18N_8 (io), AC4 IO_L11P_8 (io), AC5 IO_L13P_8 (io), AC6 IO_L24P_CC_LC_8 (io), AC7 IO_L28P_8 (io), AC8 IO_L32N_8 (io), AC9 IO_L29P_8 (io), AC18 IO_L29P_SM4_7 (io), AC19 IO_L25N_CC_SM7_LC_7 (io), AC20 IO_L28N_VREF_7 (io), AC21 IO_L24P_CC_LC_7 (io), AC22 IO_L13P_7 (io), AC23 IO_L16P_7 (io), AC24 IO_L16N_7 (io), AC25 IO_L9P_CC_LC_7 (io), AC26 IO_L9N_CC_LC_7 (io), AD1 IO_L16N_8 (io), AD2 IO_L16P_8 (io), AD3 IO_L18P_8 (io), AD4 IO_L22N_8 (io), AD5 IO_L22P_8 (io), AD6 IO_L30N_8 (io), AD7 IO_L23N_VRP_8 (io), AD8 IO_L32P_8 (io), AD19 IO_L25P_CC_SM7_LC_7 (io), AD20 IO_L23N_VRP_7 (io), AD21 IO_L32N_SM1_7 (io), AD22 IO_L15P_7 (io), AD23 IO_L15N_7 (io), AD25 IO_L11P_7 (io), AD26 IO_L11N_7 (io), AE3 IO_L15N_8 (io), AE4 IO_L17N_8 (io), AE5 VCCO_8 (power), AE6 IO_L30P_8 (io), AE7 IO_L23P_VRN_8 (io), AE8 VCCO_8 (power), AE9 IO_L31N_8 (io), AE18 IO_L31N_SM2_7 (io), AE19 VCCO_7 (power), AE20 IO_L23P_VRN_7 (io), AE21 IO_L32P_SM1_7 (io), AE22 VCCO_7 (power), AE23 IO_L19N_7 (io), AE24 IO_L22N_7 (io), AF3 IO_L15P_8 (io), AF4 IO_L17P_8 (io), AF5 IO_L19N_8 (io), AF6 IO_L19P_8 (io), AF7 IO_L25N_CC_LC_8 (io), AF8 IO_L25P_CC_LC_8 (io), AF9 IO_L31P_8 (io), AF18 IO_L31P_SM2_7 (io), AF19 IO_L17P_7 (io), AF20 IO_L17N_7 (io), AF21 IO_L30P_SM3_7 (io), AF22 IO_L30N_SM3_7 (io), AF23 IO_L19P_7 (io), AF24 IO_L22P_7 (io), V5 IO_L2N_8 (io), V6 IO_L2P_8 (io), V7 IO_L3N_8 (io), V8 VCCO_8 (power), V19 VCCO_7 (power), V20 IO_L5N_7 (io), V21 IO_L1P_7 (io), V22 IO_L1N_7 (io), W1 IO_L1N_8 (io), W2 IO_L1P_8 (io), W3 IO_L4N_VREF_8 (io), W4 IO_L4P_8 (io), W5 IO_L5N_8 (io), W6 IO_L5P_8 (io), W7 IO_L3P_8 (io), W8 VCCO_8 (power), W9 VCCO_8 (power), W17 VCCO_7 (power), W18 VCCO_7 (power), W19 IO_L18N_7 (io), W20 IO_L5P_7 (io), W21 IO_L3P_7 (io), W22 IO_L3N_7 (io), W23 IO_L4P_7 (io), W24 IO_L4N_VREF_7 (io), W25 IO_L2P_7 (io), W26 IO_L2N_7 (io), Y1 IO_L6N_8 (io), Y2 IO_L6P_8 (io), Y3 IO_L8N_CC_LC_8 (io), Y4 IO_L8P_CC_LC_8 (io), Y5 IO_L9N_CC_LC_8 (io), Y6 IO_L9P_CC_LC_8 (io), Y7 IO_L20N_VREF_8 (io), Y8 IO_L26N_8 (io), Y9 IO_L21N_8 (io), Y10 IO_L27P_8 (io), Y17 IO_L27P_SM5_7 (io), Y18 IO_L21N_7 (io), Y19 IO_L18P_7 (io), Y20 IO_L20P_7 (io), Y21 IO_L20N_VREF_7 (io), Y22 IO_L12P_7 (io), Y23 IO_L12N_VREF_7 (io), Y24 IO_L8N_CC_LC_7 (io), Y25 IO_L6P_7 (io), Y26 IO_L6N_7 (io)
part D pins: J1 IO_L4N_VREF_10 (io), J2 IO_L4P_10 (io), J4 IO_L2N_10 (io), J5 IO_L2P_10 (io), J6 IO_L1N_10 (io), J7 IO_L1P_10 (io), J20 IO_L1N_9 (io), J21 IO_L1P_9 (io), J22 IO_L2N_9 (io), J23 IO_L2P_9 (io), J25 IO_L4N_VREF_9 (io), J26 IO_L4P_9 (io), K1 IO_L10N_10 (io), K2 IO_L7N_10 (io), K3 IO_L7P_10 (io), K4 IO_L6N_10 (io), K5 IO_L6P_10 (io), K6 IO_L3N_10 (io), K7 IO_L3P_10 (io), K8 VCCO_10 (power), K19 VCCO_9 (power), K20 IO_L5N_9 (io), K21 IO_L3N_9 (io), K22 IO_L3P_9 (io), K23 IO_L7N_9 (io), K24 IO_L7P_9 (io), K25 IO_L8N_CC_LC_9 (io), K26 IO_L8P_CC_LC_9 (io), L1 IO_L10P_10 (io), L2 VCCO_10 (power), L3 IO_L8N_CC_LC_10 (io), L4 IO_L8P_CC_LC_10 (io), L5 VCCO_10 (power), L6 IO_L5N_10 (io), L7 IO_L5P_10 (io), L8 IO_L9N_CC_LC_10 (io), L19 IO_L5P_9 (io), L20 IO_L6N_9 (io), L21 IO_L6P_9 (io), L22 VCCO_9 (power), L23 IO_L10N_9 (io), L24 IO_L10P_9 (io), L25 VCCO_9 (power), L26 IO_L12P_9 (io), M1 IO_L11N_10 (io), M2 IO_L11P_10 (io), M3 IO_L12N_VREF_10 (io), M4 IO_L12P_10 (io), M5 IO_L13N_10 (io), M6 IO_L13P_10 (io), M7 IO_L17N_10 (io), M8 IO_L9P_CC_LC_10 (io), M18 VCCO_9 (power), M19 IO_L9P_CC_LC_9 (io), M20 IO_L13N_9 (io), M21 IO_L13P_9 (io), M22 IO_L14N_9 (io), M23 IO_L14P_9 (io), M24 IO_L11N_9 (io), M25 IO_L11P_9 (io), M26 IO_L12N_VREF_9 (io), N1 VCCO_10 (power), N2 IO_L14N_10 (io), N3 IO_L14P_10 (io), N4 IO_L15N_10 (io), N5 IO_L15P_10 (io), N7 IO_L17P_10 (io), N8 IO_L19N_10 (io), N19 IO_L9N_CC_LC_9 (io), N20 IO_L17N_9 (io), N21 IO_L17P_9 (io), N22 IO_L16N_9 (io), N23 IO_L16P_9 (io), N24 IO_L15N_9 (io), N25 IO_L15P_9 (io), P2 IO_L16N_10 (io), P3 IO_L16P_10 (io), P4 IO_L18N_10 (io), P5 IO_L18P_10 (io), P6 IO_L21N_10 (io), P7 IO_L21P_10 (io), P8 IO_L19P_10 (io), P19 IO_L21N_9 (io), P20 IO_L21P_9 (io), P22 IO_L19N_9 (io), P23 IO_L19P_9 (io), P24 IO_L18N_9 (io), P25 IO_L18P_9 (io), P26 VCCO_9 (power), R1 IO_L22N_10 (io), R2 IO_L22P_10 (io), R3 IO_L20N_VREF_10 (io), R4 IO_L20P_10 (io), R5 IO_L23N_VRP_10 (io), R6 IO_L23P_VRN_10 (io), R7 IO_L25N_CC_LC_10 (io), R8 IO_L25P_CC_LC_10 (io), R9 VCCO_10 (power), R19 IO_L25N_CC_LC_9 (io), R20 IO_L25P_CC_LC_9 (io), R21 IO_L23N_VRP_9 (io), R22 IO_L23P_VRN_9 (io), R23 IO_L22N_9 (io), R24 IO_L22P_9 (io), R25 IO_L20N_VREF_9 (io), R26 IO_L20P_9 (io), T1 IO_L24N_CC_LC_10 (io), T2 VCCO_10 (power), T3 IO_L26N_10 (io), T4 IO_L26P_10 (io), T5 VCCO_10 (power), T6 IO_L27N_10 (io), T7 IO_L27P_10 (io), T8 IO_L31P_10 (io), T19 IO_L31N_9 (io), T20 IO_L30N_9 (io), T21 IO_L30P_9 (io), T22 VCCO_9 (power), T23 IO_L24N_CC_LC_9 (io), T24 IO_L24P_CC_LC_9 (io), T25 VCCO_9 (power), T26 IO_L26P_9 (io), U1 IO_L24P_CC_LC_10 (io), U2 IO_L28N_VREF_10 (io), U3 IO_L28P_10 (io), U4 IO_L29N_10 (io), U5 IO_L32N_10 (io), U6 IO_L32P_10 (io), U7 IO_L31N_10 (io), U8 VCCO_10 (power), U19 VCCO_9 (power), U20 IO_L31P_9 (io), U21 IO_L29N_9 (io), U22 IO_L29P_9 (io), U23 IO_L27P_9 (io), U24 IO_L28N_VREF_9 (io), U25 IO_L28P_9 (io), U26 IO_L26N_9 (io), V1 IO_L30N_10 (io), V2 IO_L30P_10 (io), V4 IO_L29P_10 (io), V23 IO_L27N_9 (io), V25 IO_L32N_9 (io), V26 IO_L32P_9 (io)
part E pins: G11 CS_B_0 (io), G12 D_IN_0 (io), G13 TDN_0, G14 CCLK_0 (io), G15 INIT_0 (io), G16 HSWAPEN_0 (in), H12 RDWR_B_0 (in), H13 TDP_0, H14 DONE_0 (io), H15 PROGRAM_B_0 (in), J15 VCCO_0 (power), V12 VCCO_0 (power), W12 TCK_0 (in), W13 PWRDWN_B_0 (in), W14 M2_0 (in), W15 M0_0 (in), Y11 TMS_0 (in), Y12 TDI_0 (in), Y13 TDO_0 (out), Y14 DOUT_BUSY_0 (io), Y15 M1_0 (in), Y16 VBATT_0 (power)
part F pins: AE15 VREFN_SM (in), AE16 VREFP_SM (in), AE17 AVSS_SM (in), AF15 VN_SM (in), AF16 VP_SM (in), AF17 AVDD_SM (in), H11 VCCAUX (power), H16 VCCAUX (power), H17 VCCAUX (power), J10 VCCINT (power), J11 VCCINT (power), J12 VCCAUX (power), J16 VCCINT (power), J17 VCCINT (power), K9 VCCINT (power), K10 VCCINT (power), K17 VCCINT (power), K18 VCCINT (power), L9 VCCINT (power), L10 VCCINT (power), L11 VCCINT (power), L16 VCCINT (power), L17 VCCINT (power), L18 VCCINT (power), M9 VCCAUX (power), M12 VCCINT (power), M15 VCCINT (power), N9 VCCAUX (power), N18 VCCAUX (power), P9 VCCAUX (power), P18 VCCAUX (power), R12 VCCINT (power), R15 VCCINT (power), R18 VCCAUX (power), T9 VCCINT (power), T10 VCCINT (power), T11 VCCINT (power), T16 VCCINT (power), T17 VCCINT (power), T18 VCCINT (power), U9 VCCINT (power), U10 VCCINT (power), U17 VCCINT (power), U18 VCCINT (power), V10 VCCINT (power), V11 VCCINT (power), V15 VCCAUX (power), V16 VCCINT (power), V17 VCCINT (power), W10 VCCAUX (power), W11 VCCAUX (power), W16 VCCAUX (power)
part G pins: A2 GND (power), A13 GND (power), A14 GND (power), A25 GND (power), AA6 GND (power), AA21 GND (power), AB12 GND (power), AB15 GND (power), AD9 GND (power), AD18 GND (power), AD24 GND (power), AE1 GND (power), AE2 GND (power), AE25 GND (power), AE26 GND (power), AF2 GND (power), AF13 GND (power), AF14 GND (power), AF25 GND (power), B1 GND (power), B2 GND (power), B25 GND (power), B26 GND (power), C3 GND (power), C9 GND (power), C18 GND (power), E12 GND (power), E15 GND (power), F6 GND (power), F21 GND (power), J3 GND (power), J13 GND (power), J14 GND (power), J24 GND (power), K11 GND (power), K12 GND (power), K13 GND (power), K14 GND (power), K15 GND (power), K16 GND (power), L12 GND (power), L13 GND (power), L14 GND (power), L15 GND (power), M10 GND (power), M11 GND (power), M13 GND (power), M14 GND (power), M16 GND (power), M17 GND (power), N6 GND (power), N10 GND (power), N11 GND (power), N12 GND (power), N13 GND (power), N14 GND (power), N15 GND (power), N16 GND (power), N17 GND (power), N26 GND (power), P1 GND (power), P10 GND (power), P11 GND (power), P12 GND (power), P13 GND (power), P14 GND (power), P15 GND (power), P16 GND (power), P17 GND (power), P21 GND (power), R10 GND (power), R11 GND (power), R13 GND (power), R14 GND (power), R16 GND (power), R17 GND (power), T12 GND (power), T13 GND (power), T14 GND (power), T15 GND (power), U11 GND (power), U12 GND (power), U13 GND (power), U14 GND (power), U15 GND (power), U16 GND (power), V3 GND (power), V13 GND (power), V14 GND (power), V24 GND (power)
part A text: Bank 1; Bank 2; Bank 4; Bank 3
part B text: Bank 5; Bank 6
part C text: Bank 7; Bank 8
part D text: Bank 9; Bank 10

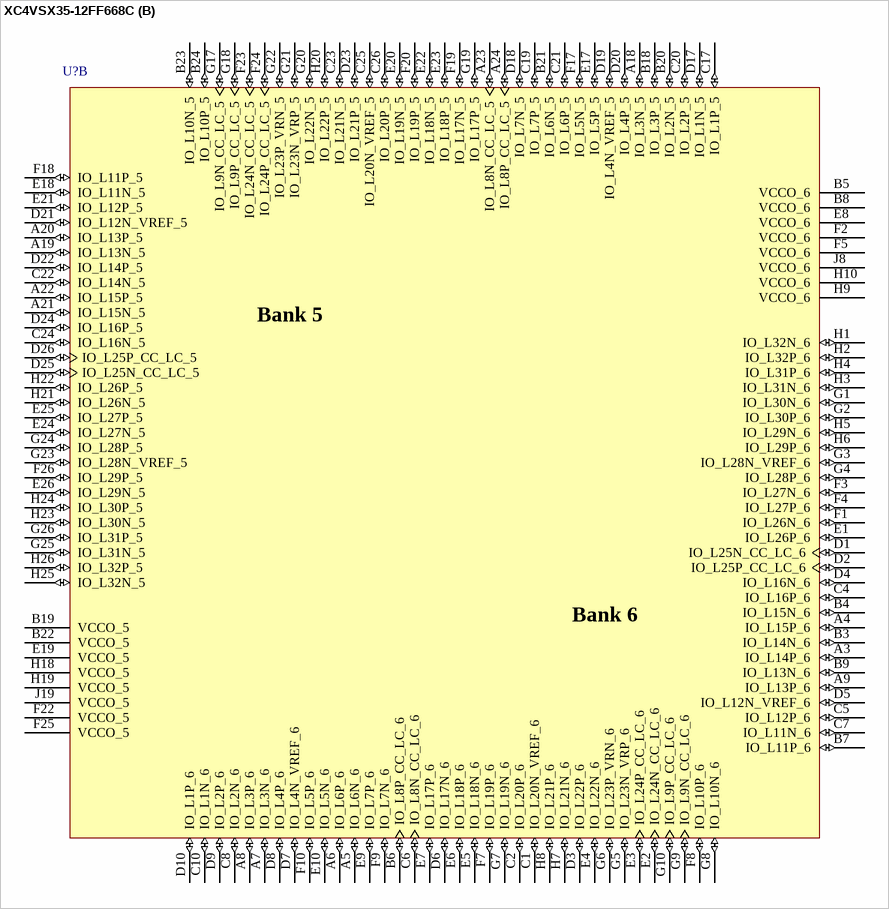
[diagram p384: symbol XC4VSX35-12FF668C]

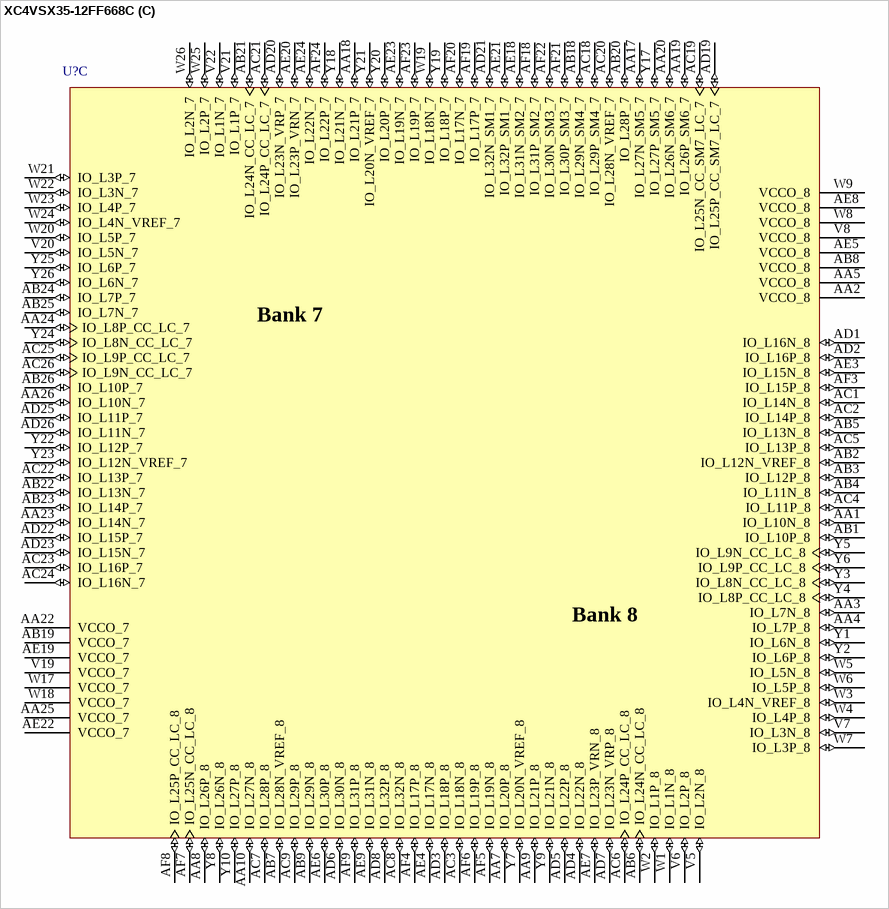
[diagram p385: symbol XC4VSX35-12FF668C]

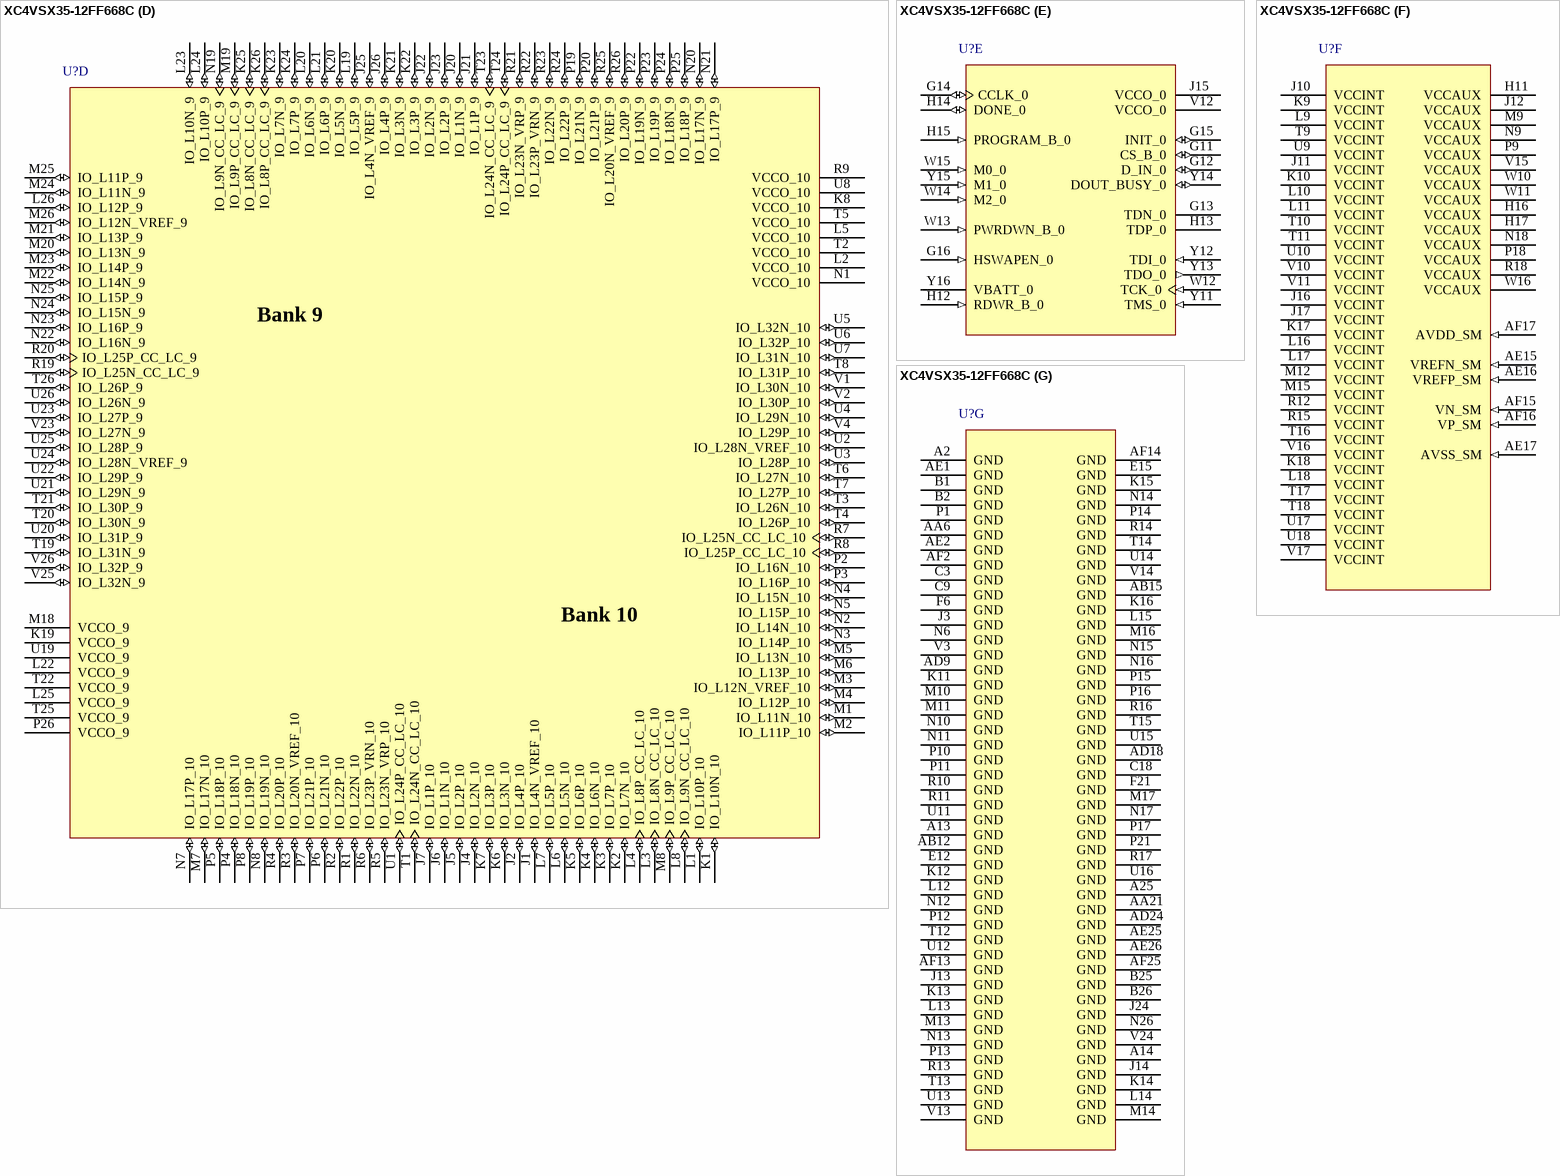
[diagram p386: symbol XC4VSX35-12FF668C]

## XC4VSX35-12FF668C
designator U?
Xilinx Virtex-4 SX Platform FPGA, 668-Ball FFBGA, Speed Grade 12, 448 User I/Os, Commercial Grade; PackageDocument: ver1.0, Sep-2004; Published: 13-Dec-2004; DatasheetDocument: ver1.2, Dec-2004; PackageReference: FF668; Publisher: Altium Limited; Code_JEDEC: MS-034-AAL-1 (Depopulated)
footprint FF668 (668-Ball Flip-Chip Fine-Pitch Ball Grid Array (FF668))
3D model XC4VSX35-FF668 (668-Ball Flip-Chip Fine-Pitch Ball Grid Array (FF668))
signal-integrity model XC4VSX35_FF668 (Virtex-4)
part A pins: A10 IO_L6P_GC_LC_3 (io), A11 IO_L2N_GC_VRP_LC_3 (io), A12 IO_L2P_GC_VRN_LC_3 (io), A15 IO_L5N_GC_LC_3 (io), A16 IO_L5P_GC_LC_3 (io), A17 IO_L7N_GC_LC_3 (io), AA11 IO_L6N_D4_LC_2 (io), AA12 IO_L6P_D5_LC_2 (io), AA13 IO_L4N_D8_VREF_LC_2 (io), AA14 IO_L1P_D15_CC_LC_2 (io), AA15 IO_L3N_D10_LC_2 (io), AA16 IO_L3P_D11_LC_2 (io), AB10 IO_L2N_GC_LC_4 (io), AB11 VCCO_2 (power), AB13 IO_L4P_D9_LC_2 (io), AB14 IO_L1N_D14_CC_LC_2 (io), AB16 VCCO_2 (power), AB17 IO_L3P_GC_LC_4 (io), AC10 IO_L2P_GC_LC_4 (io), AC11 IO_L2N_D12_LC_2 (io), AC12 IO_L2P_D13_LC_2 (io), AC13 IO_L8P_D1_LC_2 (io), AC14 IO_L5P_D7_LC_2 (io), AC15 IO_L7N_D2_LC_2 (io), AC16 IO_L7P_D3_LC_2 (io), AC17 IO_L3N_GC_LC_4 (io), AD10 IO_L6N_GC_LC_4 (io), AD11 IO_L8N_GC_CC_LC_4 (io), AD12 IO_L8P_GC_CC_LC_4 (io), AD13 IO_L8N_D0_LC_2 (io), AD14 IO_L5N_D6_LC_2 (io), AD15 VCCO_4 (power), AD16 IO_L7N_GC_VRP_LC_4 (io), AD17 IO_L7P_GC_VRN_LC_4 (io), AE10 IO_L6P_GC_LC_4 (io), AE11 VCCO_4 (power), AE12 IO_L1N_GC_LC_4 (io), AE13 IO_L5N_GC_LC_4 (io), AE14 IO_L5P_GC_LC_4 (io), AF10 IO_L4N_GC_VREF_LC_4 (io), AF11 IO_L4P_GC_LC_4 (io), AF12 IO_L1P_GC_LC_4 (io), B10 IO_L6N_GC_LC_3 (io), B11 VCCO_3 (power), B12 IO_L4N_GC_VREF_LC_3 (io), B13 IO_L4P_GC_LC_3 (io), B14 IO_L1N_GC_CC_LC_3 (io), B15 IO_L1P_GC_CC_LC_3 (io), B16 VCCO_3 (power), B17 IO_L7P_GC_LC_3 (io), C11 IO_L6P_D21_LC_1 (io), C12 IO_L8N_GC_LC_3 (io), C13 IO_L8P_GC_LC_3 (io), C14 IO_L3N_GC_LC_3 (io), C15 IO_L3P_GC_LC_3 (io), C16 IO_L7N_D18_LC_1 (io), D11 IO_L6N_D20_LC_1 (io), D12 IO_L8N_D16_CC_LC_1 (io), D13 IO_L4N_D24_VREF_LC_1 (io), D14 IO_L4P_D25_LC_1 (io), D15 IO_L5P_D23_LC_1 (io), D16 IO_L7P_D19_LC_1 (io), E11 VCCO_1 (power), E13 IO_L8P_D17_CC_LC_1 (io), E14 IO_L5N_D22_LC_1 (io), E16 VCCO_1 (power), F11 IO_L2N_D28_LC_1 (io), F12 IO_L2P_D29_LC_1 (io), F13 IO_L1N_D30_LC_1 (io), F14 IO_L1P_D31_LC_1 (io), F15 IO_L3N_D26_LC_1 (io), F16 IO_L3P_D27_LC_1 (io)
part B pins: A3 IO_L14P_6 (io), A4 IO_L15P_6 (io), A5 IO_L6N_6 (io), A6 IO_L6P_6 (io), A7 IO_L3N_6 (io), A8 IO_L3P_6 (io), A9 IO_L13P_6 (io), A18 IO_L3N_5 (io), A19 IO_L13N_5 (io), A20 IO_L13P_5 (io), A21 IO_L15N_5 (io), A22 IO_L15P_5 (io), A23 IO_L8N_CC_LC_5 (io), A24 IO_L8P_CC_LC_5 (io), B3 IO_L14N_6 (io), B4 IO_L15N_6 (io), B5 VCCO_6 (power), B6 IO_L8P_CC_LC_6 (io), B7 IO_L11P_6 (io), B8 VCCO_6 (power), B9 IO_L13N_6 (io), B18 IO_L3P_5 (io), B19 VCCO_5 (power), B20 IO_L2N_5 (io), B21 IO_L6N_5 (io), B22 VCCO_5 (power), B23 IO_L10N_5 (io), B24 IO_L10P_5 (io), C1 IO_L20N_VREF_6 (io), C2 IO_L20P_6 (io), C4 IO_L16P_6 (io), C5 IO_L12P_6 (io), C6 IO_L8N_CC_LC_6 (io), C7 IO_L11N_6 (io), C8 IO_L2N_6 (io), C10 IO_L1N_6 (io), C17 IO_L1P_5 (io), C19 IO_L7P_5 (io), C20 IO_L2P_5 (io), C21 IO_L6P_5 (io), C22 IO_L14N_5 (io), C23 IO_L21N_5 (io), C24 IO_L16N_5 (io), C25 IO_L20N_VREF_5 (io), C26 IO_L20P_5 (io), D1 IO_L25N_CC_LC_6 (io), D2 IO_L25P_CC_LC_6 (io), D3 IO_L22P_6 (io), D4 IO_L16N_6 (io), D5 IO_L12N_VREF_6 (io), D6 IO_L17N_6 (io), D7 IO_L4N_VREF_6 (io), D8 IO_L4P_6 (io), D9 IO_L2P_6 (io), D10 IO_L1P_6 (io), D17 IO_L1N_5 (io), D18 IO_L7N_5 (io), D19 IO_L4N_VREF_5 (io), D20 IO_L4P_5 (io), D21 IO_L12N_VREF_5 (io), D22 IO_L14P_5 (io), D23 IO_L21P_5 (io), D24 IO_L16P_5 (io), D25 IO_L25N_CC_LC_5 (io), D26 IO_L25P_CC_LC_5 (io), E1 IO_L26P_6 (io), E2 IO_L24N_CC_LC_6 (io), E3 IO_L24P_CC_LC_6 (io), E4 IO_L22N_6 (io), E5 IO_L18N_6 (io), E6 IO_L18P_6 (io), E7 IO_L17P_6 (io), E8 VCCO_6 (power), E9 IO_L7P_6 (io), E10 IO_L5N_6 (io), E17 IO_L5P_5 (io), E18 IO_L11N_5 (io), E19 VCCO_5 (power), E20 IO_L19N_5 (io), E21 IO_L12P_5 (io), E22 IO_L18N_5 (io), E23 IO_L18P_5 (io), E24 IO_L27N_5 (io), E25 IO_L27P_5 (io), E26 IO_L29N_5 (io), F1 IO_L26N_6 (io), F2 VCCO_6 (power), F3 IO_L27N_6 (io), F4 IO_L27P_6 (io), F5 VCCO_6 (power), F7 IO_L19P_6 (io), F8 IO_L10P_6 (io), F9 IO_L7N_6 (io), F10 IO_L5P_6 (io), F17 IO_L5N_5 (io), F18 IO_L11P_5 (io), F19 IO_L17N_5 (io), F20 IO_L19P_5 (io), F22 VCCO_5 (power), F23 IO_L24N_CC_LC_5 (io), F24 IO_L24P_CC_LC_5 (io), F25 VCCO_5 (power), F26 IO_L29P_5 (io), G1 IO_L30N_6 (io), G2 IO_L30P_6 (io), G3 IO_L28N_VREF_6 (io), G4 IO_L28P_6 (io), G5 IO_L23N_VRP_6 (io), G6 IO_L23P_VRN_6 (io), G7 IO_L19N_6 (io), G8 IO_L10N_6 (io), G9 IO_L9N_CC_LC_6 (io), G10 IO_L9P_CC_LC_6 (io), G17 IO_L9N_CC_LC_5 (io), G18 IO_L9P_CC_LC_5 (io), G19 IO_L17P_5 (io), G20 IO_L22N_5 (io), G21 IO_L23N_VRP_5 (io), G22 IO_L23P_VRN_5 (io), G23 IO_L28N_VREF_5 (io), G24 IO_L28P_5 (io), G25 IO_L31N_5 (io), G26 IO_L31P_5 (io), H1 IO_L32N_6 (io), H2 IO_L32P_6 (io), H3 IO_L31N_6 (io), H4 IO_L31P_6 (io), H5 IO_L29N_6 (io), H6 IO_L29P_6 (io), H7 IO_L21N_6 (io), H8 IO_L21P_6 (io), H9 VCCO_6 (power), H10 VCCO_6 (power), H18 VCCO_5 (power), H19 VCCO_5 (power), H20 IO_L22P_5 (io), H21 IO_L26N_5 (io), H22 IO_L26P_5 (io), H23 IO_L30N_5 (io), H24 IO_L30P_5 (io), H25 IO_L32N_5 (io), H26 IO_L32P_5 (io), J8 VCCO_6 (power), J19 VCCO_5 (power)
part C pins: AA1 IO_L10N_8 (io), AA2 VCCO_8 (power), AA3 IO_L7N_8 (io), AA4 IO_L7P_8 (io), AA5 VCCO_8 (power), AA7 IO_L20P_8 (io), AA8 IO_L26P_8 (io), AA9 IO_L21P_8 (io), AA10 IO_L27N_8 (io), AA17 IO_L27N_SM5_7 (io), AA18 IO_L21P_7 (io), AA19 IO_L26P_SM6_7 (io), AA20 IO_L26N_SM6_7 (io), AA22 VCCO_7 (power), AA23 IO_L14N_7 (io), AA24 IO_L8P_CC_LC_7 (io), AA25 VCCO_7 (power), AA26 IO_L10N_7 (io), AB1 IO_L10P_8 (io), AB2 IO_L12N_VREF_8 (io), AB3 IO_L12P_8 (io), AB4 IO_L11N_8 (io), AB5 IO_L13N_8 (io), AB6 IO_L24N_CC_LC_8 (io), AB7 IO_L28N_VREF_8 (io), AB8 VCCO_8 (power), AB9 IO_L29N_8 (io), AB18 IO_L29N_SM4_7 (io), AB19 VCCO_7 (power), AB20 IO_L28P_7 (io), AB21 IO_L24N_CC_LC_7 (io), AB22 IO_L13N_7 (io), AB23 IO_L14P_7 (io), AB24 IO_L7P_7 (io), AB25 IO_L7N_7 (io), AB26 IO_L10P_7 (io), AC1 IO_L14N_8 (io), AC2 IO_L14P_8 (io), AC3 IO_L18N_8 (io), AC4 IO_L11P_8 (io), AC5 IO_L13P_8 (io), AC6 IO_L24P_CC_LC_8 (io), AC7 IO_L28P_8 (io), AC8 IO_L32N_8 (io), AC9 IO_L29P_8 (io), AC18 IO_L29P_SM4_7 (io), AC19 IO_L25N_CC_SM7_LC_7 (io), AC20 IO_L28N_VREF_7 (io), AC21 IO_L24P_CC_LC_7 (io), AC22 IO_L13P_7 (io), AC23 IO_L16P_7 (io), AC24 IO_L16N_7 (io), AC25 IO_L9P_CC_LC_7 (io), AC26 IO_L9N_CC_LC_7 (io), AD1 IO_L16N_8 (io), AD2 IO_L16P_8 (io), AD3 IO_L18P_8 (io), AD4 IO_L22N_8 (io), AD5 IO_L22P_8 (io), AD6 IO_L30N_8 (io), AD7 IO_L23N_VRP_8 (io), AD8 IO_L32P_8 (io), AD19 IO_L25P_CC_SM7_LC_7 (io), AD20 IO_L23N_VRP_7 (io), AD21 IO_L32N_SM1_7 (io), AD22 IO_L15P_7 (io), AD23 IO_L15N_7 (io), AD25 IO_L11P_7 (io), AD26 IO_L11N_7 (io), AE3 IO_L15N_8 (io), AE4 IO_L17N_8 (io), AE5 VCCO_8 (power), AE6 IO_L30P_8 (io), AE7 IO_L23P_VRN_8 (io), AE8 VCCO_8 (power), AE9 IO_L31N_8 (io), AE18 IO_L31N_SM2_7 (io), AE19 VCCO_7 (power), AE20 IO_L23P_VRN_7 (io), AE21 IO_L32P_SM1_7 (io), AE22 VCCO_7 (power), AE23 IO_L19N_7 (io), AE24 IO_L22N_7 (io), AF3 IO_L15P_8 (io), AF4 IO_L17P_8 (io), AF5 IO_L19N_8 (io), AF6 IO_L19P_8 (io), AF7 IO_L25N_CC_LC_8 (io), AF8 IO_L25P_CC_LC_8 (io), AF9 IO_L31P_8 (io), AF18 IO_L31P_SM2_7 (io), AF19 IO_L17P_7 (io), AF20 IO_L17N_7 (io), AF21 IO_L30P_SM3_7 (io), AF22 IO_L30N_SM3_7 (io), AF23 IO_L19P_7 (io), AF24 IO_L22P_7 (io), V5 IO_L2N_8 (io), V6 IO_L2P_8 (io), V7 IO_L3N_8 (io), V8 VCCO_8 (power), V19 VCCO_7 (power), V20 IO_L5N_7 (io), V21 IO_L1P_7 (io), V22 IO_L1N_7 (io), W1 IO_L1N_8 (io), W2 IO_L1P_8 (io), W3 IO_L4N_VREF_8 (io), W4 IO_L4P_8 (io), W5 IO_L5N_8 (io), W6 IO_L5P_8 (io), W7 IO_L3P_8 (io), W8 VCCO_8 (power), W9 VCCO_8 (power), W17 VCCO_7 (power), W18 VCCO_7 (power), W19 IO_L18N_7 (io), W20 IO_L5P_7 (io), W21 IO_L3P_7 (io), W22 IO_L3N_7 (io), W23 IO_L4P_7 (io), W24 IO_L4N_VREF_7 (io), W25 IO_L2P_7 (io), W26 IO_L2N_7 (io), Y1 IO_L6N_8 (io), Y2 IO_L6P_8 (io), Y3 IO_L8N_CC_LC_8 (io), Y4 IO_L8P_CC_LC_8 (io), Y5 IO_L9N_CC_LC_8 (io), Y6 IO_L9P_CC_LC_8 (io), Y7 IO_L20N_VREF_8 (io), Y8 IO_L26N_8 (io), Y9 IO_L21N_8 (io), Y10 IO_L27P_8 (io), Y17 IO_L27P_SM5_7 (io), Y18 IO_L21N_7 (io), Y19 IO_L18P_7 (io), Y20 IO_L20P_7 (io), Y21 IO_L20N_VREF_7 (io), Y22 IO_L12P_7 (io), Y23 IO_L12N_VREF_7 (io), Y24 IO_L8N_CC_LC_7 (io), Y25 IO_L6P_7 (io), Y26 IO_L6N_7 (io)
part D pins: J1 IO_L4N_VREF_10 (io), J2 IO_L4P_10 (io), J4 IO_L2N_10 (io), J5 IO_L2P_10 (io), J6 IO_L1N_10 (io), J7 IO_L1P_10 (io), J20 IO_L1N_9 (io), J21 IO_L1P_9 (io), J22 IO_L2N_9 (io), J23 IO_L2P_9 (io), J25 IO_L4N_VREF_9 (io), J26 IO_L4P_9 (io), K1 IO_L10N_10 (io), K2 IO_L7N_10 (io), K3 IO_L7P_10 (io), K4 IO_L6N_10 (io), K5 IO_L6P_10 (io), K6 IO_L3N_10 (io), K7 IO_L3P_10 (io), K8 VCCO_10 (power), K19 VCCO_9 (power), K20 IO_L5N_9 (io), K21 IO_L3N_9 (io), K22 IO_L3P_9 (io), K23 IO_L7N_9 (io), K24 IO_L7P_9 (io), K25 IO_L8N_CC_LC_9 (io), K26 IO_L8P_CC_LC_9 (io), L1 IO_L10P_10 (io), L2 VCCO_10 (power), L3 IO_L8N_CC_LC_10 (io), L4 IO_L8P_CC_LC_10 (io), L5 VCCO_10 (power), L6 IO_L5N_10 (io), L7 IO_L5P_10 (io), L8 IO_L9N_CC_LC_10 (io), L19 IO_L5P_9 (io), L20 IO_L6N_9 (io), L21 IO_L6P_9 (io), L22 VCCO_9 (power), L23 IO_L10N_9 (io), L24 IO_L10P_9 (io), L25 VCCO_9 (power), L26 IO_L12P_9 (io), M1 IO_L11N_10 (io), M2 IO_L11P_10 (io), M3 IO_L12N_VREF_10 (io), M4 IO_L12P_10 (io), M5 IO_L13N_10 (io), M6 IO_L13P_10 (io), M7 IO_L17N_10 (io), M8 IO_L9P_CC_LC_10 (io), M18 VCCO_9 (power), M19 IO_L9P_CC_LC_9 (io), M20 IO_L13N_9 (io), M21 IO_L13P_9 (io), M22 IO_L14N_9 (io), M23 IO_L14P_9 (io), M24 IO_L11N_9 (io), M25 IO_L11P_9 (io), M26 IO_L12N_VREF_9 (io), N1 VCCO_10 (power), N2 IO_L14N_10 (io), N3 IO_L14P_10 (io), N4 IO_L15N_10 (io), N5 IO_L15P_10 (io), N7 IO_L17P_10 (io), N8 IO_L19N_10 (io), N19 IO_L9N_CC_LC_9 (io), N20 IO_L17N_9 (io), N21 IO_L17P_9 (io), N22 IO_L16N_9 (io), N23 IO_L16P_9 (io), N24 IO_L15N_9 (io), N25 IO_L15P_9 (io), P2 IO_L16N_10 (io), P3 IO_L16P_10 (io), P4 IO_L18N_10 (io), P5 IO_L18P_10 (io), P6 IO_L21N_10 (io), P7 IO_L21P_10 (io), P8 IO_L19P_10 (io), P19 IO_L21N_9 (io), P20 IO_L21P_9 (io), P22 IO_L19N_9 (io), P23 IO_L19P_9 (io), P24 IO_L18N_9 (io), P25 IO_L18P_9 (io), P26 VCCO_9 (power), R1 IO_L22N_10 (io), R2 IO_L22P_10 (io), R3 IO_L20N_VREF_10 (io), R4 IO_L20P_10 (io), R5 IO_L23N_VRP_10 (io), R6 IO_L23P_VRN_10 (io), R7 IO_L25N_CC_LC_10 (io), R8 IO_L25P_CC_LC_10 (io), R9 VCCO_10 (power), R19 IO_L25N_CC_LC_9 (io), R20 IO_L25P_CC_LC_9 (io), R21 IO_L23N_VRP_9 (io), R22 IO_L23P_VRN_9 (io), R23 IO_L22N_9 (io), R24 IO_L22P_9 (io), R25 IO_L20N_VREF_9 (io), R26 IO_L20P_9 (io), T1 IO_L24N_CC_LC_10 (io), T2 VCCO_10 (power), T3 IO_L26N_10 (io), T4 IO_L26P_10 (io), T5 VCCO_10 (power), T6 IO_L27N_10 (io), T7 IO_L27P_10 (io), T8 IO_L31P_10 (io), T19 IO_L31N_9 (io), T20 IO_L30N_9 (io), T21 IO_L30P_9 (io), T22 VCCO_9 (power), T23 IO_L24N_CC_LC_9 (io), T24 IO_L24P_CC_LC_9 (io), T25 VCCO_9 (power), T26 IO_L26P_9 (io), U1 IO_L24P_CC_LC_10 (io), U2 IO_L28N_VREF_10 (io), U3 IO_L28P_10 (io), U4 IO_L29N_10 (io), U5 IO_L32N_10 (io), U6 IO_L32P_10 (io), U7 IO_L31N_10 (io), U8 VCCO_10 (power), U19 VCCO_9 (power), U20 IO_L31P_9 (io), U21 IO_L29N_9 (io), U22 IO_L29P_9 (io), U23 IO_L27P_9 (io), U24 IO_L28N_VREF_9 (io), U25 IO_L28P_9 (io), U26 IO_L26N_9 (io), V1 IO_L30N_10 (io), V2 IO_L30P_10 (io), V4 IO_L29P_10 (io), V23 IO_L27N_9 (io), V25 IO_L32N_9 (io), V26 IO_L32P_9 (io)
part E pins: G11 CS_B_0 (io), G12 D_IN_0 (io), G13 TDN_0, G14 CCLK_0 (io), G15 INIT_0 (io), G16 HSWAPEN_0 (in), H12 RDWR_B_0 (in), H13 TDP_0, H14 DONE_0 (io), H15 PROGRAM_B_0 (in), J15 VCCO_0 (power), V12 VCCO_0 (power), W12 TCK_0 (in), W13 PWRDWN_B_0 (in), W14 M2_0 (in), W15 M0_0 (in), Y11 TMS_0 (in), Y12 TDI_0 (in), Y13 TDO_0 (out), Y14 DOUT_BUSY_0 (io), Y15 M1_0 (in), Y16 VBATT_0 (power)
part F pins: AE15 VREFN_SM (in), AE16 VREFP_SM (in), AE17 AVSS_SM (in), AF15 VN_SM (in), AF16 VP_SM (in), AF17 AVDD_SM (in), H11 VCCAUX (power), H16 VCCAUX (power), H17 VCCAUX (power), J10 VCCINT (power), J11 VCCINT (power), J12 VCCAUX (power), J16 VCCINT (power), J17 VCCINT (power), K9 VCCINT (power), K10 VCCINT (power), K17 VCCINT (power), K18 VCCINT (power), L9 VCCINT (power), L10 VCCINT (power), L11 VCCINT (power), L16 VCCINT (power), L17 VCCINT (power), L18 VCCINT (power), M9 VCCAUX (power), M12 VCCINT (power), M15 VCCINT (power), N9 VCCAUX (power), N18 VCCAUX (power), P9 VCCAUX (power), P18 VCCAUX (power), R12 VCCINT (power), R15 VCCINT (power), R18 VCCAUX (power), T9 VCCINT (power), T10 VCCINT (power), T11 VCCINT (power), T16 VCCINT (power), T17 VCCINT (power), T18 VCCINT (power), U9 VCCINT (power), U10 VCCINT (power), U17 VCCINT (power), U18 VCCINT (power), V10 VCCINT (power), V11 VCCINT (power), V15 VCCAUX (power), V16 VCCINT (power), V17 VCCINT (power), W10 VCCAUX (power), W11 VCCAUX (power), W16 VCCAUX (power)
part G pins: A2 GND (power), A13 GND (power), A14 GND (power), A25 GND (power), AA6 GND (power), AA21 GND (power), AB12 GND (power), AB15 GND (power), AD9 GND (power), AD18 GND (power), AD24 GND (power), AE1 GND (power), AE2 GND (power), AE25 GND (power), AE26 GND (power), AF2 GND (power), AF13 GND (power), AF14 GND (power), AF25 GND (power), B1 GND (power), B2 GND (power), B25 GND (power), B26 GND (power), C3 GND (power), C9 GND (power), C18 GND (power), E12 GND (power), E15 GND (power), F6 GND (power), F21 GND (power), J3 GND (power), J13 GND (power), J14 GND (power), J24 GND (power), K11 GND (power), K12 GND (power), K13 GND (power), K14 GND (power), K15 GND (power), K16 GND (power), L12 GND (power), L13 GND (power), L14 GND (power), L15 GND (power), M10 GND (power), M11 GND (power), M13 GND (power), M14 GND (power), M16 GND (power), M17 GND (power), N6 GND (power), N10 GND (power), N11 GND (power), N12 GND (power), N13 GND (power), N14 GND (power), N15 GND (power), N16 GND (power), N17 GND (power), N26 GND (power), P1 GND (power), P10 GND (power), P11 GND (power), P12 GND (power), P13 GND (power), P14 GND (power), P15 GND (power), P16 GND (power), P17 GND (power), P21 GND (power), R10 GND (power), R11 GND (power), R13 GND (power), R14 GND (power), R16 GND (power), R17 GND (power), T12 GND (power), T13 GND (power), T14 GND (power), T15 GND (power), U11 GND (power), U12 GND (power), U13 GND (power), U14 GND (power), U15 GND (power), U16 GND (power), V3 GND (power), V13 GND (power), V14 GND (power), V24 GND (power)
part A text: Bank 1; Bank 2; Bank 4; Bank 3
part B text: Bank 5; Bank 6
part C text: Bank 7; Bank 8
part D text: Bank 9; Bank 10

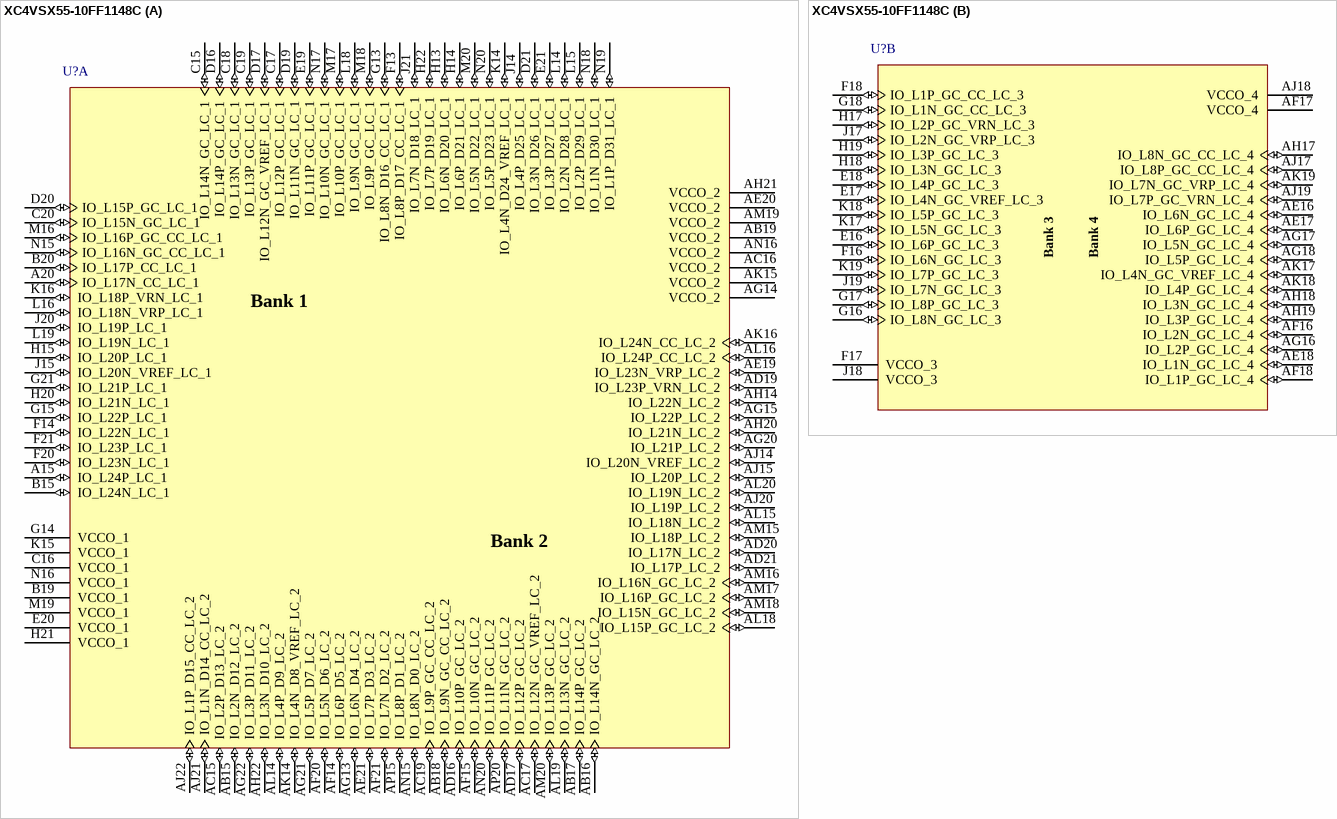
[diagram p387: symbol XC4VSX55-10FF1148C]

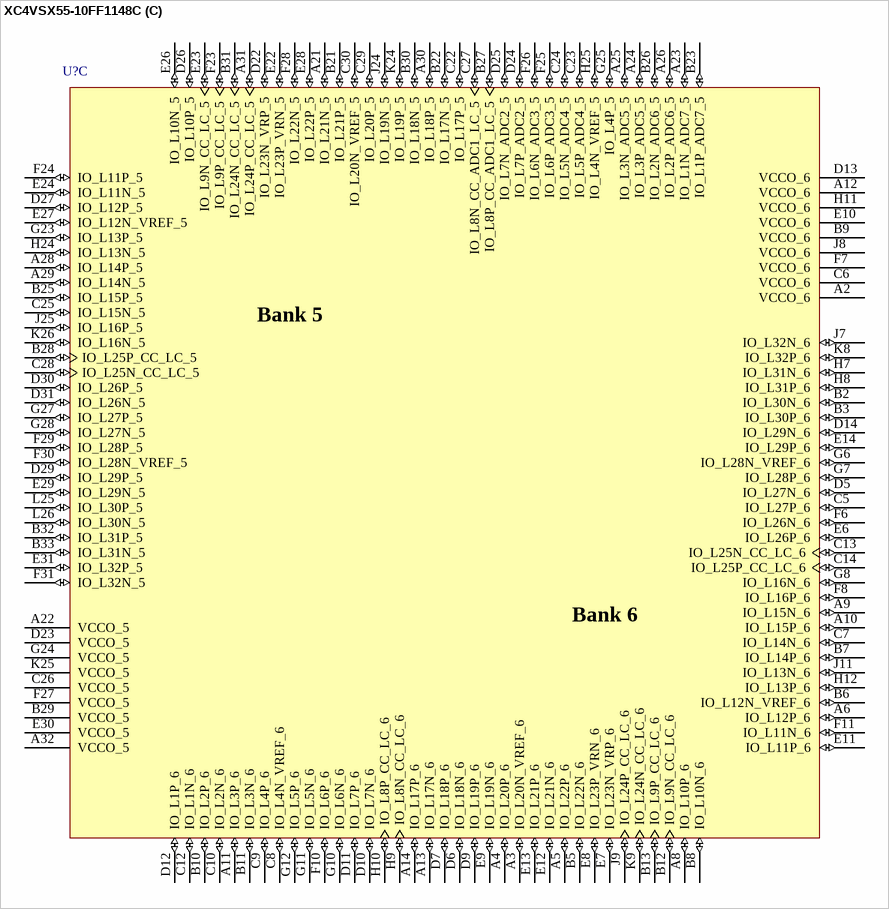
[diagram p388: symbol XC4VSX55-10FF1148C]

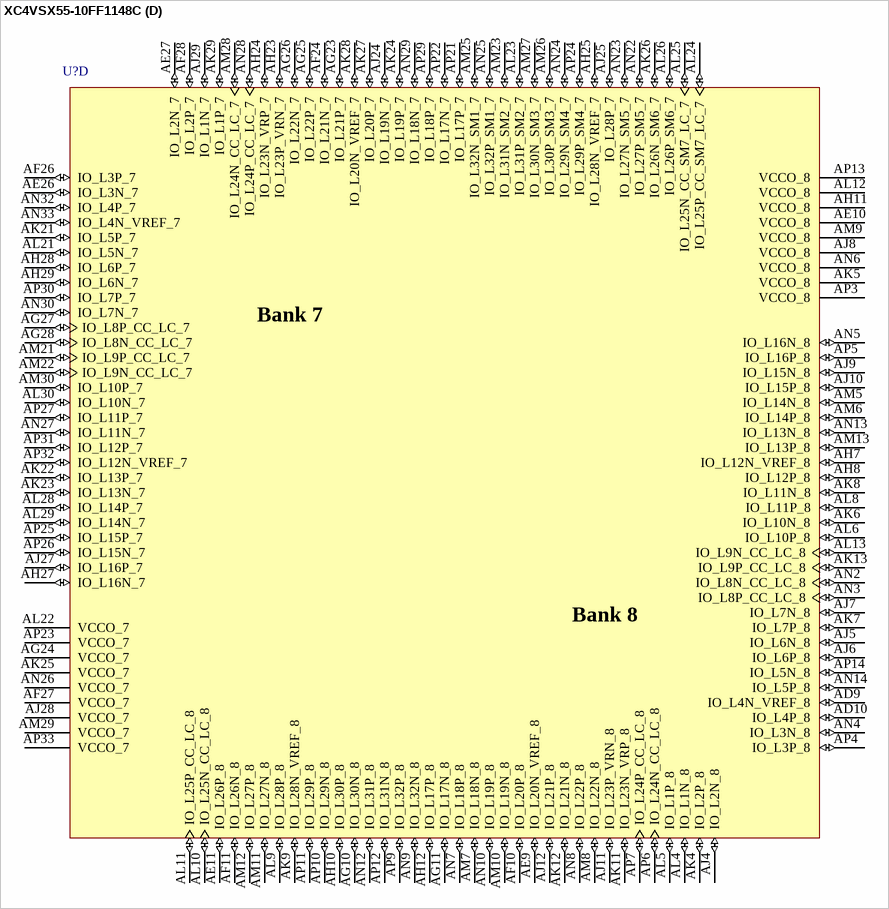
[diagram p389: symbol XC4VSX55-10FF1148C]

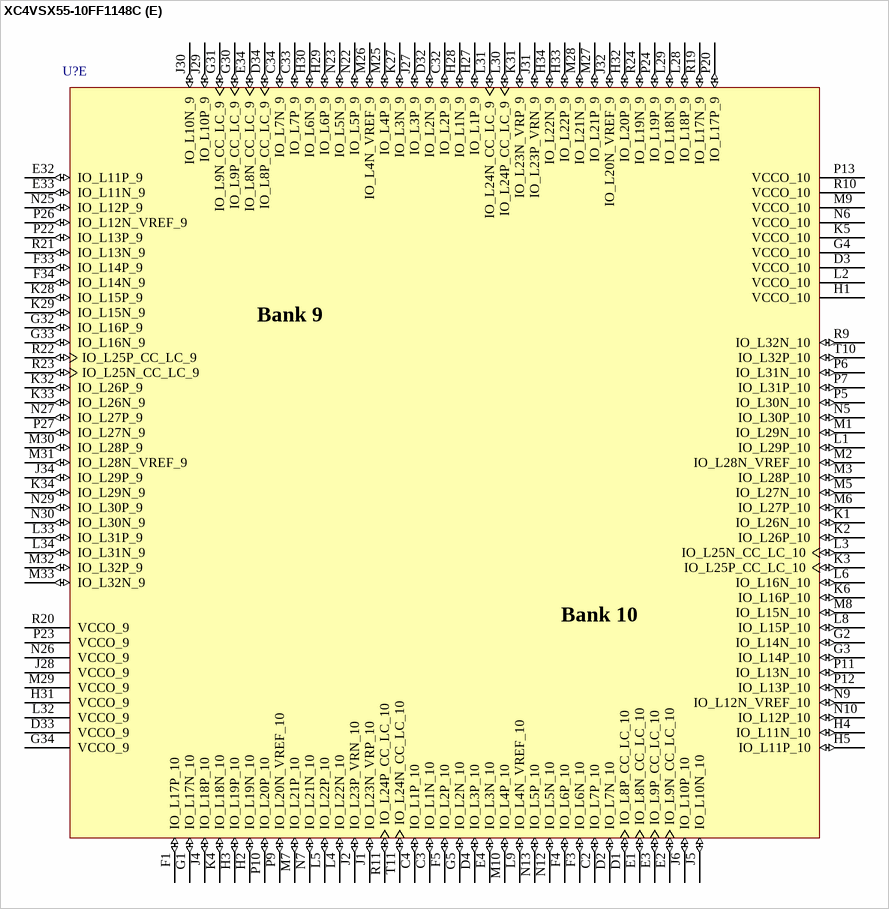
[diagram p390: symbol XC4VSX55-10FF1148C]

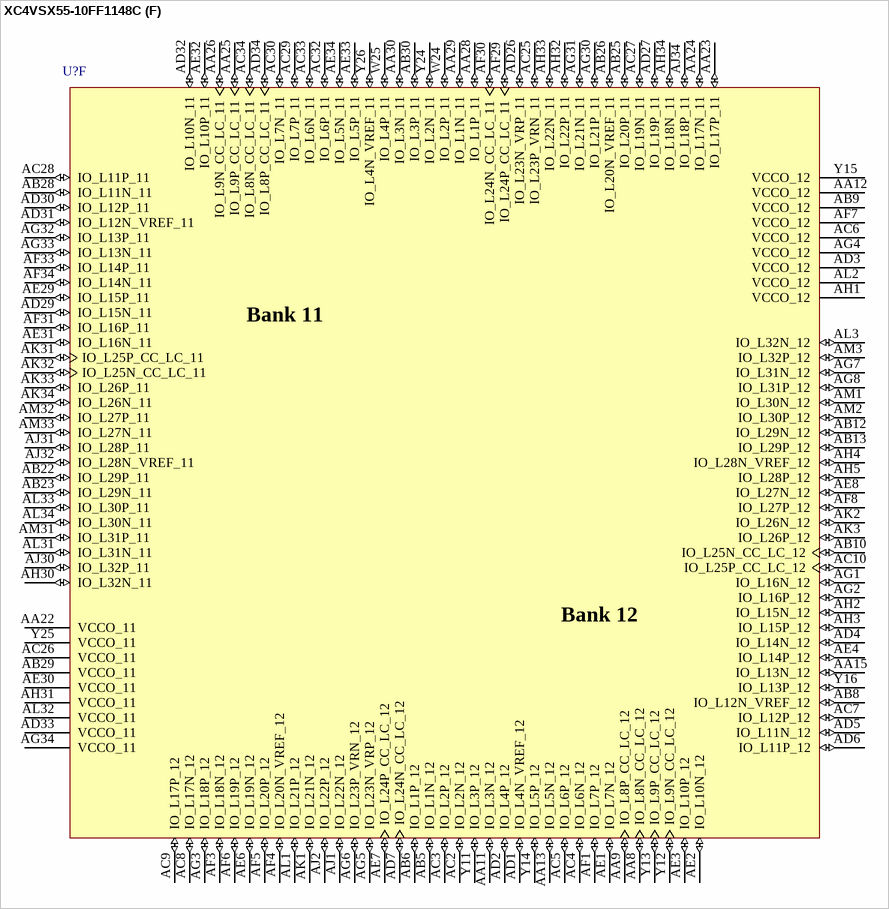
[diagram p391: symbol XC4VSX55-10FF1148C]

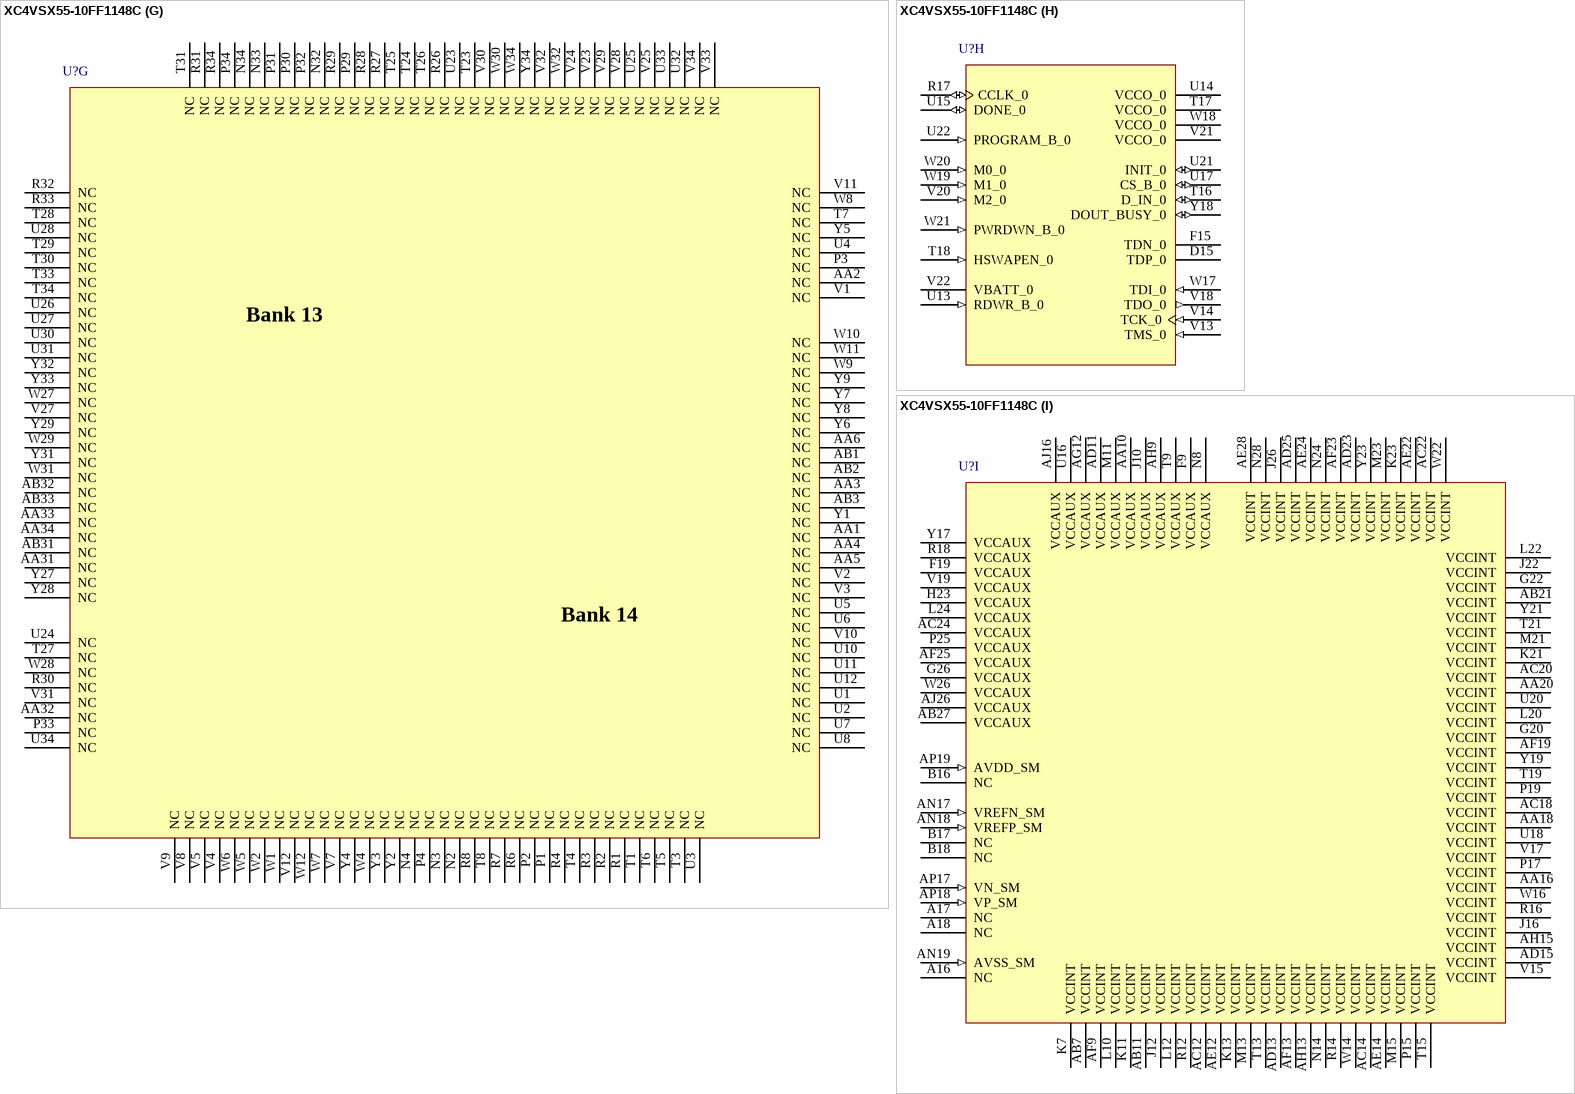
[diagram p392: symbol XC4VSX55-10FF1148C]

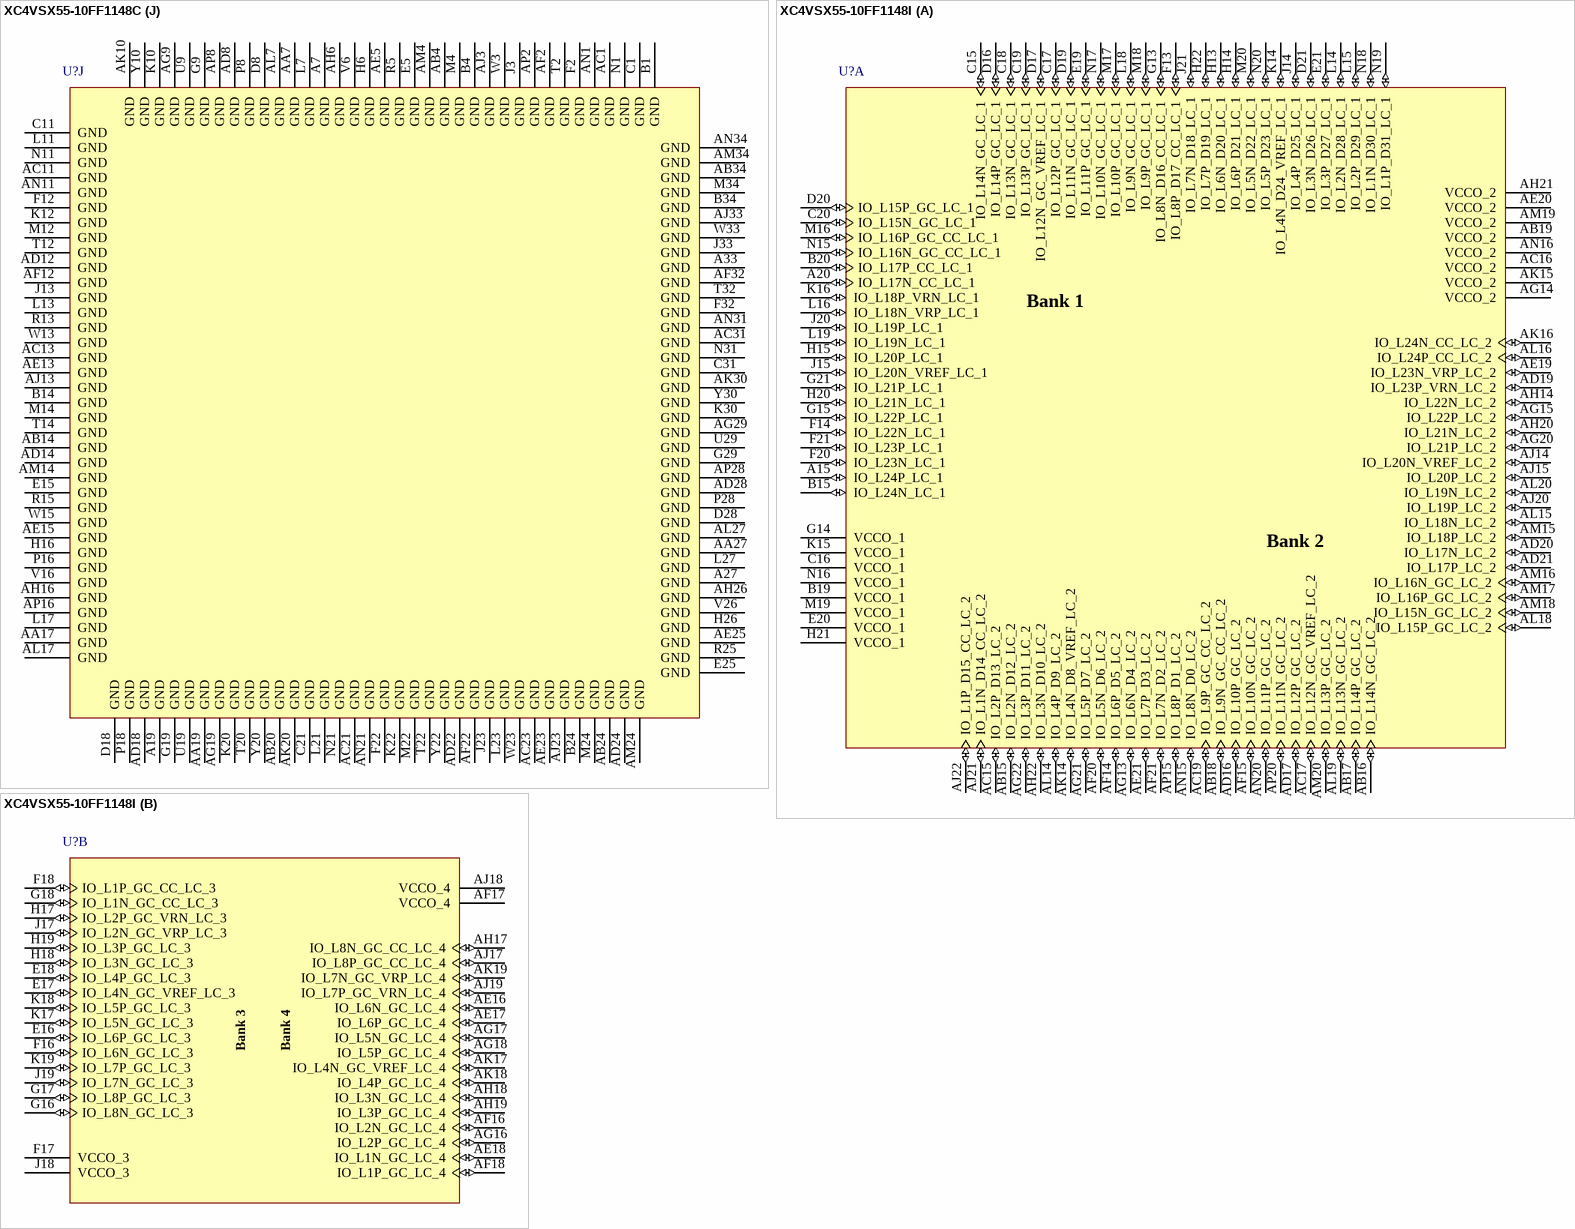
[diagram p393: symbols XC4VSX55-10FF1148C to XC4VSX55-10FF1148I]